# Altium schematic symbol library NXP Semiconductors Cortex-M0.SchLib: 92 symbols (part 2 of 5)
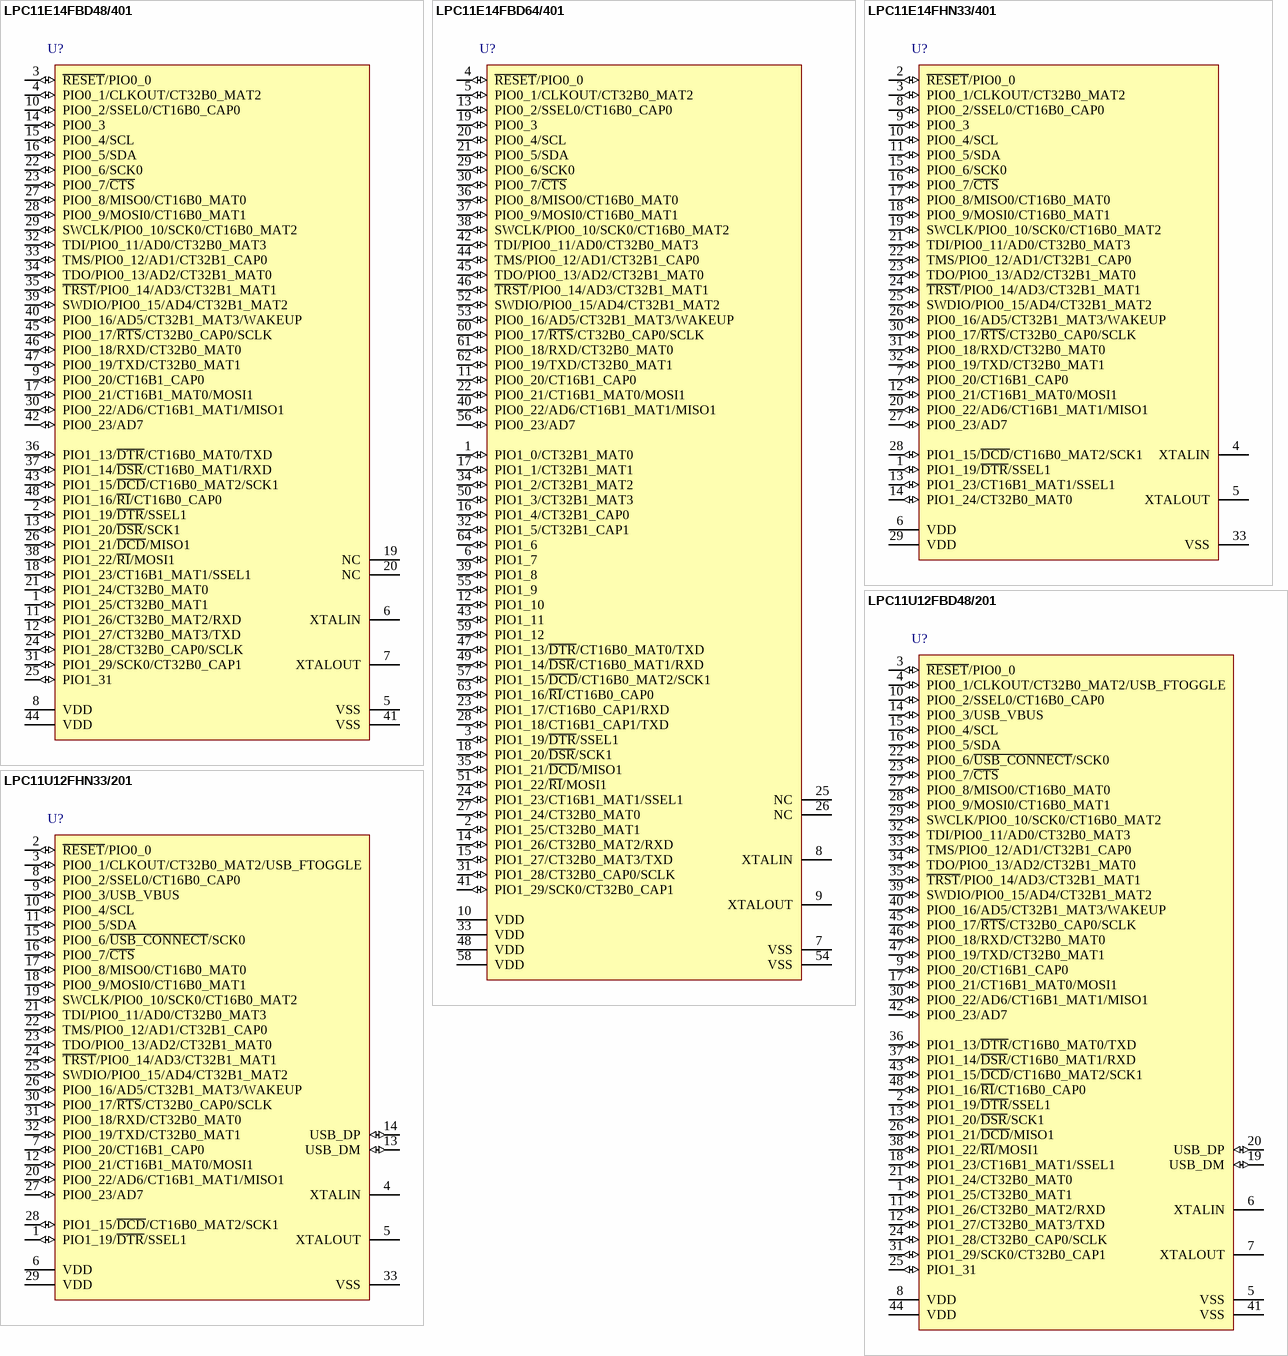
[diagram p17: symbols LPC11E14FBD48/401 to LPC11U12FHN33/201]

## LPC11U12FHN33/201
designator U?
32-bit ARM Cortex-M0 MCU, 16 kB Flash, 6 kB SRAM, USB device, USART, 2 SSPs, 32-Pin HVQFN; PartNumber: LPC11U12FHN33/201; fmax: 50 MHz; SRAM: 6 kB; Flash: 16 kB; GPIOs: 26; USB: 1; SSP: 2; PLL: Y; Timers: 4; ADC channels: 8; VDD (min): 1.8 V; VDD (typ): 3.3 V; VDD (max): 3.6 V; DatasheetVersion: Rev. 2, Jan-2012; PackageVersion: Sep-2004; PackageReference: SOT865-1; PackageDescription: 32-Pin Plastic Thermal Enhanced Very Thin Quad Flat No-Lead, 7 x 7 x 0.85 mm Body, 0.65 mm Pitch; UART: 1; I2C: 1; Code_JEDEC: MO-220; ComponentLink1Description: Manufacturer URL; ComponentLink1URL: http://www.nxp.com/; ComponentLink2Description: Datasheet; ComponentLink2URL: http://www.nxp.com/documents/data_sheet/LPC11U1X.pdf
footprint SOT865-1_N (QFN, 32-Leads, Body 7x7mm, Pitch 0.65mm, Thermal Pad 4.6x4.6mm, IPC Medium Density)
footprint SOT865-1_L (QFN, 32-Leads, Body 7x7mm, Pitch 0.65mm, Thermal Pad 4.6x4.6mm, IPC High Density)
footprint SOT865-1_M (QFN, 32-Leads, Body 7x7mm, Pitch 0.65mm, Thermal Pad 4.6x4.6mm, IPC Low Density)
pins: 1 PIO1_19/~{DTR}/SSEL1 (io), 2 ~{RESET}/PIO0_0 (io), 3 PIO0_1/CLKOUT/CT32B0_MAT2/USB_FTOGGLE (io), 4 XTALIN, 5 XTALOUT, 6 VDD (power), 7 PIO0_20/CT16B1_CAP0 (io), 8 PIO0_2/SSEL0/CT16B0_CAP0 (io), 9 PIO0_3/USB_VBUS (io), 10 PIO0_4/SCL (io), 11 PIO0_5/SDA (io), 12 PIO0_21/CT16B1_MAT0/MOSI1 (io), 13 USB_DM (io), 14 USB_DP (io), 15 PIO0_6/~{USB_CONNECT}/SCK0 (io), 16 PIO0_7/~{CTS} (io), 17 PIO0_8/MISO0/CT16B0_MAT0 (io), 18 PIO0_9/MOSI0/CT16B0_MAT1 (io), 19 SWCLK/PIO0_10/SCK0/CT16B0_MAT2 (io), 20 PIO0_22/AD6/CT16B1_MAT1/MISO1 (io), 21 TDI/PIO0_11/AD0/CT32B0_MAT3 (io), 22 TMS/PIO0_12/AD1/CT32B1_CAP0 (io), 23 TDO/PIO0_13/AD2/CT32B1_MAT0 (io), 24 ~{TRST}/PIO0_14/AD3/CT32B1_MAT1 (io), 25 SWDIO/PIO0_15/AD4/CT32B1_MAT2 (io), 26 PIO0_16/AD5/CT32B1_MAT3/WAKEUP (io), 27 PIO0_23/AD7 (io), 28 PIO1_15/~{DCD}/CT16B0_MAT2/SCK1 (io), 29 VDD (power), 30 PIO0_17/~{RTS}/CT32B0_CAP0/SCLK (io), 31 PIO0_18/RXD/CT32B0_MAT0 (io), 32 PIO0_19/TXD/CT32B0_MAT1 (io), 33 VSS (power)

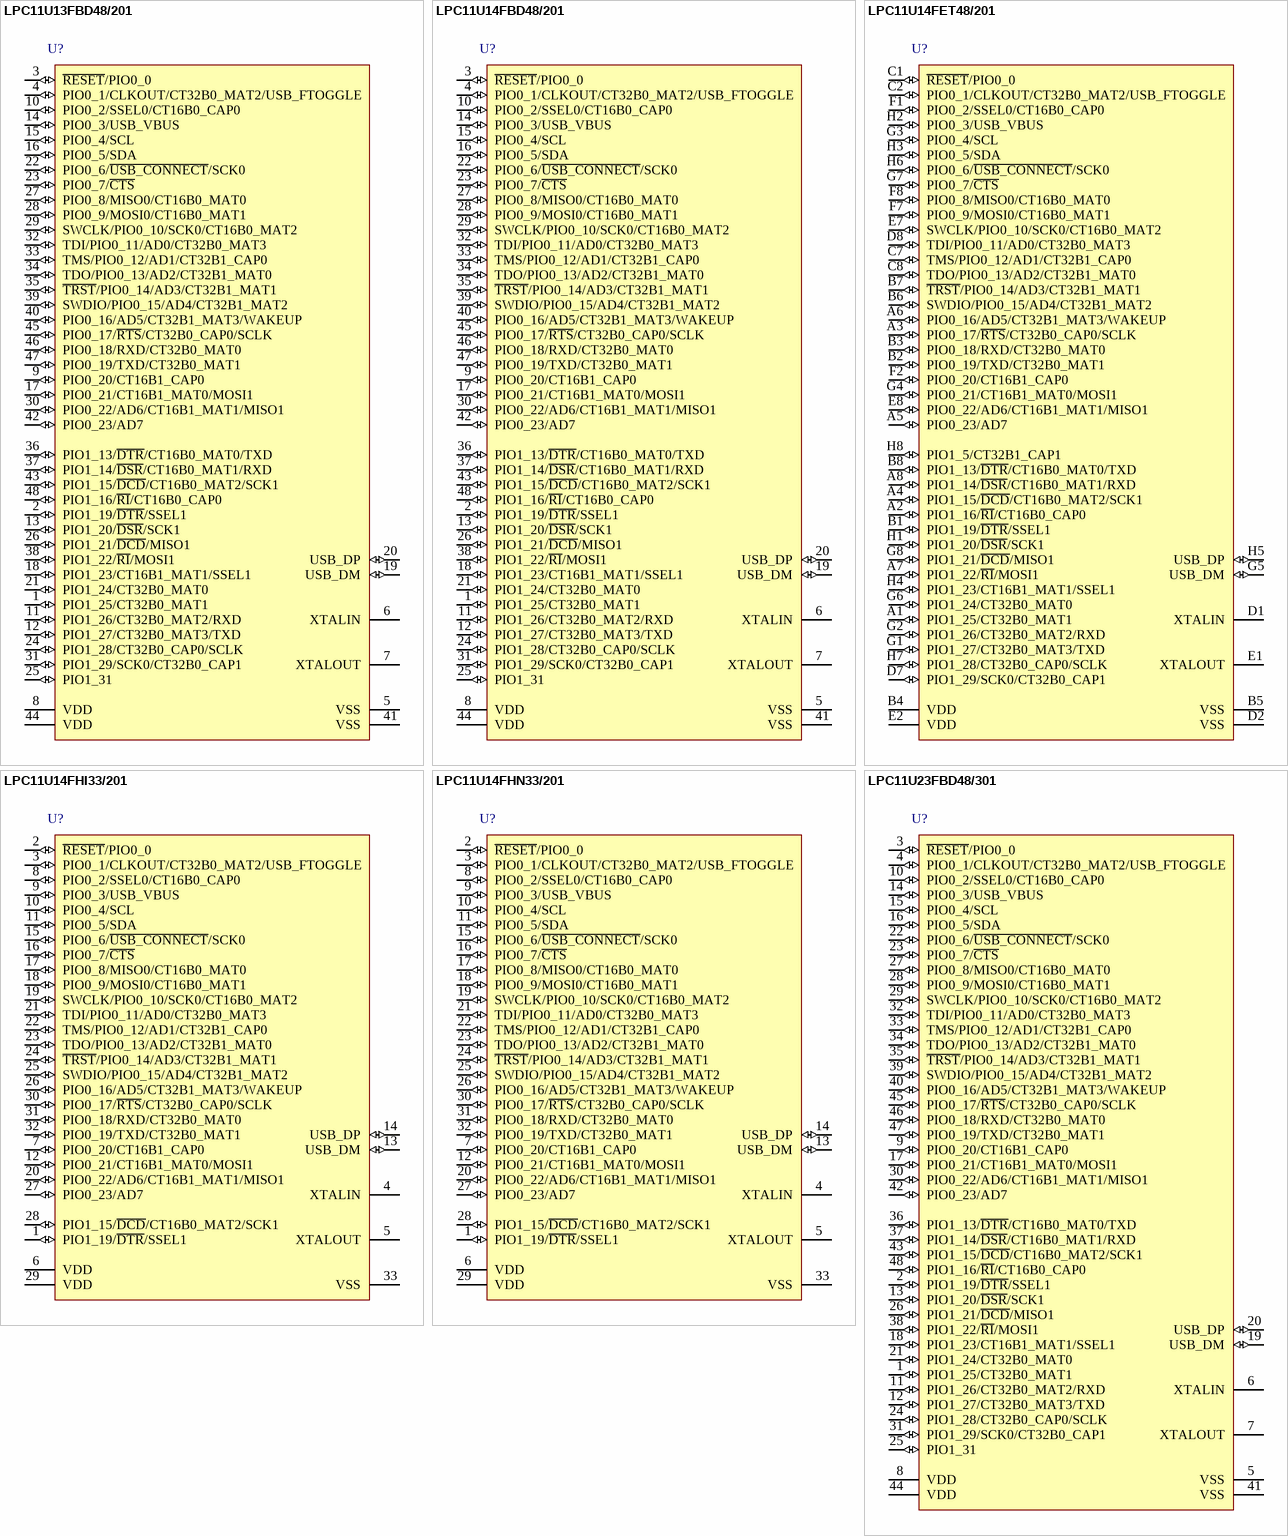
[diagram p4: symbols LPC11U13FBD48/201 to LPC11U23FBD48/301]

## LPC11U13FBD48/201
designator U?
32-bit ARM Cortex-M0 MCU, 24 kB Flash, 6 kB SRAM, USB device, USART, 2 SSPs, 48-Pin LQFP; PartNumber: LPC11U13FBD48/201; fmax: 50 MHz; SRAM: 6 kB; Flash: 24 kB; GPIOs: 40; USB: 1; SSP: 2; PLL: Y; Timers: 4; ADC channels: 8; VDD (min): 1.8 V; VDD (typ): 3.3 V; VDD (max): 3.6 V; Code_IEC: 136E05; DatasheetVersion: Rev. 2, Jan-2012; PackageVersion: Feb-2003; PackageReference: SOT313-2; PackageDescription: LQFP48: Plastic Low Profile Quad Flat Package; 48 Leads; Body 7 x 7 x 1.4 mm; UART: 1; I2C: 1; Code_JEDEC: MS-026; ComponentLink1Description: Manufacturer URL; ComponentLink1URL: http://www.nxp.com/; ComponentLink2Description: Datasheet; ComponentLink2URL: http://www.nxp.com/documents/data_sheet/LPC11U1X.pdf
footprint SOT313-2_V (Thin QFP, 48-Leads, Body 7x7mm, Pitch 0.5mm, NXP Recommended)
pins: 1 PIO1_25/CT32B0_MAT1 (io), 2 PIO1_19/~{DTR}/SSEL1 (io), 3 ~{RESET}/PIO0_0 (io), 4 PIO0_1/CLKOUT/CT32B0_MAT2/USB_FTOGGLE (io), 5 VSS (power), 6 XTALIN, 7 XTALOUT, 8 VDD (power), 9 PIO0_20/CT16B1_CAP0 (io), 10 PIO0_2/SSEL0/CT16B0_CAP0 (io), 11 PIO1_26/CT32B0_MAT2/RXD (io), 12 PIO1_27/CT32B0_MAT3/TXD (io), 13 PIO1_20/~{DSR}/SCK1 (io), 14 PIO0_3/USB_VBUS (io), 15 PIO0_4/SCL (io), 16 PIO0_5/SDA (io), 17 PIO0_21/CT16B1_MAT0/MOSI1 (io), 18 PIO1_23/CT16B1_MAT1/SSEL1 (io), 19 USB_DM (io), 20 USB_DP (io), 21 PIO1_24/CT32B0_MAT0 (io), 22 PIO0_6/~{USB_CONNECT}/SCK0 (io), 23 PIO0_7/~{CTS} (io), 24 PIO1_28/CT32B0_CAP0/SCLK (io), 25 PIO1_31 (io), 26 PIO1_21/~{DCD}/MISO1 (io), 27 PIO0_8/MISO0/CT16B0_MAT0 (io), 28 PIO0_9/MOSI0/CT16B0_MAT1 (io), 29 SWCLK/PIO0_10/SCK0/CT16B0_MAT2 (io), 30 PIO0_22/AD6/CT16B1_MAT1/MISO1 (io), 31 PIO1_29/SCK0/CT32B0_CAP1 (io), 32 TDI/PIO0_11/AD0/CT32B0_MAT3 (io), 33 TMS/PIO0_12/AD1/CT32B1_CAP0 (io), 34 TDO/PIO0_13/AD2/CT32B1_MAT0 (io), 35 ~{TRST}/PIO0_14/AD3/CT32B1_MAT1 (io), 36 PIO1_13/~{DTR}/CT16B0_MAT0/TXD (io), 37 PIO1_14/~{DSR}/CT16B0_MAT1/RXD (io), 38 PIO1_22/~{RI}/MOSI1 (io), 39 SWDIO/PIO0_15/AD4/CT32B1_MAT2 (io), 40 PIO0_16/AD5/CT32B1_MAT3/WAKEUP (io), 41 VSS (power), 42 PIO0_23/AD7 (io), 43 PIO1_15/~{DCD}/CT16B0_MAT2/SCK1 (io), 44 VDD (power), 45 PIO0_17/~{RTS}/CT32B0_CAP0/SCLK (io), 46 PIO0_18/RXD/CT32B0_MAT0 (io), 47 PIO0_19/TXD/CT32B0_MAT1 (io), 48 PIO1_16/~{RI}/CT16B0_CAP0 (io)

## LPC11U14FBD48/201
designator U?
32-bit ARM Cortex-M0 MCU, 32 kB Flash, 6 kB SRAM, USB device, USART, 2 SSPs, 48-Pin LQFP; PartNumber: LPC11U14FBD48/201; fmax: 50 MHz; SRAM: 6 kB; Flash: 32 kB; GPIOs: 40; USB: 1; SSP: 2; PLL: Y; Timers: 4; ADC channels: 8; VDD (min): 1.8 V; VDD (typ): 3.3 V; VDD (max): 3.6 V; Code_IEC: 136E05; DatasheetVersion: Rev. 2, Jan-2012; PackageVersion: Feb-2003; PackageReference: SOT313-2; PackageDescription: LQFP48: Plastic Low Profile Quad Flat Package; 48 Leads; Body 7 x 7 x 1.4 mm; UART: 1; I2C: 1; Code_JEDEC: MS-026; ComponentLink1Description: Manufacturer URL; ComponentLink1URL: http://www.nxp.com/; ComponentLink2Description: Datasheet; ComponentLink2URL: http://www.nxp.com/documents/data_sheet/LPC11U1X.pdf
footprint SOT313-2_V (Thin QFP, 48-Leads, Body 7x7mm, Pitch 0.5mm, NXP Recommended)
pins: 1 PIO1_25/CT32B0_MAT1 (io), 2 PIO1_19/~{DTR}/SSEL1 (io), 3 ~{RESET}/PIO0_0 (io), 4 PIO0_1/CLKOUT/CT32B0_MAT2/USB_FTOGGLE (io), 5 VSS (power), 6 XTALIN, 7 XTALOUT, 8 VDD (power), 9 PIO0_20/CT16B1_CAP0 (io), 10 PIO0_2/SSEL0/CT16B0_CAP0 (io), 11 PIO1_26/CT32B0_MAT2/RXD (io), 12 PIO1_27/CT32B0_MAT3/TXD (io), 13 PIO1_20/~{DSR}/SCK1 (io), 14 PIO0_3/USB_VBUS (io), 15 PIO0_4/SCL (io), 16 PIO0_5/SDA (io), 17 PIO0_21/CT16B1_MAT0/MOSI1 (io), 18 PIO1_23/CT16B1_MAT1/SSEL1 (io), 19 USB_DM (io), 20 USB_DP (io), 21 PIO1_24/CT32B0_MAT0 (io), 22 PIO0_6/~{USB_CONNECT}/SCK0 (io), 23 PIO0_7/~{CTS} (io), 24 PIO1_28/CT32B0_CAP0/SCLK (io), 25 PIO1_31 (io), 26 PIO1_21/~{DCD}/MISO1 (io), 27 PIO0_8/MISO0/CT16B0_MAT0 (io), 28 PIO0_9/MOSI0/CT16B0_MAT1 (io), 29 SWCLK/PIO0_10/SCK0/CT16B0_MAT2 (io), 30 PIO0_22/AD6/CT16B1_MAT1/MISO1 (io), 31 PIO1_29/SCK0/CT32B0_CAP1 (io), 32 TDI/PIO0_11/AD0/CT32B0_MAT3 (io), 33 TMS/PIO0_12/AD1/CT32B1_CAP0 (io), 34 TDO/PIO0_13/AD2/CT32B1_MAT0 (io), 35 ~{TRST}/PIO0_14/AD3/CT32B1_MAT1 (io), 36 PIO1_13/~{DTR}/CT16B0_MAT0/TXD (io), 37 PIO1_14/~{DSR}/CT16B0_MAT1/RXD (io), 38 PIO1_22/~{RI}/MOSI1 (io), 39 SWDIO/PIO0_15/AD4/CT32B1_MAT2 (io), 40 PIO0_16/AD5/CT32B1_MAT3/WAKEUP (io), 41 VSS (power), 42 PIO0_23/AD7 (io), 43 PIO1_15/~{DCD}/CT16B0_MAT2/SCK1 (io), 44 VDD (power), 45 PIO0_17/~{RTS}/CT32B0_CAP0/SCLK (io), 46 PIO0_18/RXD/CT32B0_MAT0 (io), 47 PIO0_19/TXD/CT32B0_MAT1 (io), 48 PIO1_16/~{RI}/CT16B0_CAP0 (io)

## LPC11U14FET48/201
designator U?
32-bit ARM Cortex-M0 MCU, 32 kB Flash, 6 kB SRAM, USB device, USART, 2 SSPs, 48-Ball TFBGA; PartNumber: LPC11U14FET48/201; fmax: 50 MHz; SRAM: 6 kB; Flash: 32 kB; GPIOs: 40; USB: 1; SSP: 2; PLL: Y; Timers: 4; ADC channels: 8; VDD (min): 1.8 V; VDD (typ): 3.3 V; VDD (max): 3.6 V; DatasheetVersion: Rev. 2, Jan-2012; PackageVersion: Nov-2009; PackageReference: SOT1155-1; PackageDescription: Plastic Thin Fine-Pitch Ball Grid Array Package, 48-Balls, 4.5 x 4.5 x 0.8 mm Body, 0.5 mm Pitch; UART: 1; I2C: 1; ComponentLink1Description: Manufacturer URL; ComponentLink1URL: http://www.nxp.com/; ComponentLink2Description: Datasheet; ComponentLink2URL: http://www.nxp.com/documents/data_sheet/LPC11U1X.pdf
footprint SOT1155-1 (BGA, 48-Leads, Body 4.5x4.5mm, Pitch 0.5mm)
pins: A1 PIO1_25/CT32B0_MAT1 (io), A2 PIO1_16/~{RI}/CT16B0_CAP0 (io), A3 PIO0_17/~{RTS}/CT32B0_CAP0/SCLK (io), A4 PIO1_15/~{DCD}/CT16B0_MAT2/SCK1 (io), A5 PIO0_23/AD7 (io), A6 PIO0_16/AD5/CT32B1_MAT3/WAKEUP (io), A7 PIO1_22/~{RI}/MOSI1 (io), A8 PIO1_14/~{DSR}/CT16B0_MAT1/RXD (io), B1 PIO1_19/~{DTR}/SSEL1 (io), B2 PIO0_19/TXD/CT32B0_MAT1 (io), B3 PIO0_18/RXD/CT32B0_MAT0 (io), B4 VDD (power), B5 VSS (power), B6 SWDIO/PIO0_15/AD4/CT32B1_MAT2 (io), B7 ~{TRST}/PIO0_14/AD3/CT32B1_MAT1 (io), B8 PIO1_13/~{DTR}/CT16B0_MAT0/TXD (io), C1 ~{RESET}/PIO0_0 (io), C2 PIO0_1/CLKOUT/CT32B0_MAT2/USB_FTOGGLE (io), C7 TMS/PIO0_12/AD1/CT32B1_CAP0 (io), C8 TDO/PIO0_13/AD2/CT32B1_MAT0 (io), D1 XTALIN, D2 VSS (power), D7 PIO1_29/SCK0/CT32B0_CAP1 (io), D8 TDI/PIO0_11/AD0/CT32B0_MAT3 (io), E1 XTALOUT, E2 VDD (power), E7 SWCLK/PIO0_10/SCK0/CT16B0_MAT2 (io), E8 PIO0_22/AD6/CT16B1_MAT1/MISO1 (io), F1 PIO0_2/SSEL0/CT16B0_CAP0 (io), F2 PIO0_20/CT16B1_CAP0 (io), F7 PIO0_9/MOSI0/CT16B0_MAT1 (io), F8 PIO0_8/MISO0/CT16B0_MAT0 (io), G1 PIO1_27/CT32B0_MAT3/TXD (io), G2 PIO1_26/CT32B0_MAT2/RXD (io), G3 PIO0_4/SCL (io), G4 PIO0_21/CT16B1_MAT0/MOSI1 (io), G5 USB_DM (io), G6 PIO1_24/CT32B0_MAT0 (io), G7 PIO0_7/~{CTS} (io), G8 PIO1_21/~{DCD}/MISO1 (io), H1 PIO1_20/~{DSR}/SCK1 (io), H2 PIO0_3/USB_VBUS (io), H3 PIO0_5/SDA (io), H4 PIO1_23/CT16B1_MAT1/SSEL1 (io), H5 USB_DP (io), H6 PIO0_6/~{USB_CONNECT}/SCK0 (io), H7 PIO1_28/CT32B0_CAP0/SCLK (io), H8 PIO1_5/CT32B1_CAP1 (io)

## LPC11U14FHI33/201
designator U?
32-bit ARM Cortex-M0 MCU, 32 kB Flash, 6 kB SRAM, USB device, USART, 2 SSPs, 32-Pin HVQFN; PartNumber: LPC11U14FHI33/201; fmax: 50 MHz; SRAM: 6 kB; Flash: 32 kB; GPIOs: 26; USB: 1; SSP: 2; PLL: Y; Timers: 4; ADC channels: 8; VDD (min): 1.8 V; VDD (typ): 3.3 V; VDD (max): 3.6 V; DatasheetVersion: Rev. 2, Jan-2012; PackageVersion: Jun-2011; PackageReference: SOT617-3; PackageDescription: HVQFN32: Plastic Thermal Enhanced Very Thin Quad Flat Package; No Leads; 32 Terminals; Body 5 x 5 x 0.85 mm; UART: 1; I2C: 1; Code_JEDEC: MO-220; ComponentLink1Description: Manufacturer URL; ComponentLink1URL: http://www.nxp.com/; ComponentLink2Description: Datasheet; ComponentLink2URL: http://www.nxp.com/documents/data_sheet/LPC11U1X.pdf
footprint SOT617-3_V (QFN, 32-Leads, Body 5x5mm, Pitch 0.5mm, Thermal Pad 3.5x3.5mm, NXP Recommended)
pins: 1 PIO1_19/~{DTR}/SSEL1 (io), 2 ~{RESET}/PIO0_0 (io), 3 PIO0_1/CLKOUT/CT32B0_MAT2/USB_FTOGGLE (io), 4 XTALIN, 5 XTALOUT, 6 VDD (power), 7 PIO0_20/CT16B1_CAP0 (io), 8 PIO0_2/SSEL0/CT16B0_CAP0 (io), 9 PIO0_3/USB_VBUS (io), 10 PIO0_4/SCL (io), 11 PIO0_5/SDA (io), 12 PIO0_21/CT16B1_MAT0/MOSI1 (io), 13 USB_DM (io), 14 USB_DP (io), 15 PIO0_6/~{USB_CONNECT}/SCK0 (io), 16 PIO0_7/~{CTS} (io), 17 PIO0_8/MISO0/CT16B0_MAT0 (io), 18 PIO0_9/MOSI0/CT16B0_MAT1 (io), 19 SWCLK/PIO0_10/SCK0/CT16B0_MAT2 (io), 20 PIO0_22/AD6/CT16B1_MAT1/MISO1 (io), 21 TDI/PIO0_11/AD0/CT32B0_MAT3 (io), 22 TMS/PIO0_12/AD1/CT32B1_CAP0 (io), 23 TDO/PIO0_13/AD2/CT32B1_MAT0 (io), 24 ~{TRST}/PIO0_14/AD3/CT32B1_MAT1 (io), 25 SWDIO/PIO0_15/AD4/CT32B1_MAT2 (io), 26 PIO0_16/AD5/CT32B1_MAT3/WAKEUP (io), 27 PIO0_23/AD7 (io), 28 PIO1_15/~{DCD}/CT16B0_MAT2/SCK1 (io), 29 VDD (power), 30 PIO0_17/~{RTS}/CT32B0_CAP0/SCLK (io), 31 PIO0_18/RXD/CT32B0_MAT0 (io), 32 PIO0_19/TXD/CT32B0_MAT1 (io), 33 VSS (power)

## LPC11U14FHN33/201
designator U?
32-bit ARM Cortex-M0 MCU, 32 kB Flash, 6 kB SRAM, USB device, USART, 2 SSPs, 32-Pin HVQFN; PartNumber: LPC11U14FHN33/201; fmax: 50 MHz; SRAM: 6 kB; Flash: 32 kB; GPIOs: 26; USB: 1; SSP: 2; PLL: Y; Timers: 4; ADC channels: 8; VDD (min): 1.8 V; VDD (typ): 3.3 V; VDD (max): 3.6 V; DatasheetVersion: Rev. 2, Jan-2012; PackageVersion: Sep-2004; PackageReference: SOT865-1; PackageDescription: 32-Pin Plastic Thermal Enhanced Very Thin Quad Flat No-Lead, 7 x 7 x 0.85 mm Body, 0.65 mm Pitch; UART: 1; I2C: 1; Code_JEDEC: MO-220; ComponentLink1Description: Manufacturer URL; ComponentLink1URL: http://www.nxp.com/; ComponentLink2Description: Datasheet; ComponentLink2URL: http://www.nxp.com/documents/data_sheet/LPC11U1X.pdf
footprint SOT865-1_N (QFN, 32-Leads, Body 7x7mm, Pitch 0.65mm, Thermal Pad 4.6x4.6mm, IPC Medium Density)
footprint SOT865-1_L (QFN, 32-Leads, Body 7x7mm, Pitch 0.65mm, Thermal Pad 4.6x4.6mm, IPC High Density)
footprint SOT865-1_M (QFN, 32-Leads, Body 7x7mm, Pitch 0.65mm, Thermal Pad 4.6x4.6mm, IPC Low Density)
pins: 1 PIO1_19/~{DTR}/SSEL1 (io), 2 ~{RESET}/PIO0_0 (io), 3 PIO0_1/CLKOUT/CT32B0_MAT2/USB_FTOGGLE (io), 4 XTALIN, 5 XTALOUT, 6 VDD (power), 7 PIO0_20/CT16B1_CAP0 (io), 8 PIO0_2/SSEL0/CT16B0_CAP0 (io), 9 PIO0_3/USB_VBUS (io), 10 PIO0_4/SCL (io), 11 PIO0_5/SDA (io), 12 PIO0_21/CT16B1_MAT0/MOSI1 (io), 13 USB_DM (io), 14 USB_DP (io), 15 PIO0_6/~{USB_CONNECT}/SCK0 (io), 16 PIO0_7/~{CTS} (io), 17 PIO0_8/MISO0/CT16B0_MAT0 (io), 18 PIO0_9/MOSI0/CT16B0_MAT1 (io), 19 SWCLK/PIO0_10/SCK0/CT16B0_MAT2 (io), 20 PIO0_22/AD6/CT16B1_MAT1/MISO1 (io), 21 TDI/PIO0_11/AD0/CT32B0_MAT3 (io), 22 TMS/PIO0_12/AD1/CT32B1_CAP0 (io), 23 TDO/PIO0_13/AD2/CT32B1_MAT0 (io), 24 ~{TRST}/PIO0_14/AD3/CT32B1_MAT1 (io), 25 SWDIO/PIO0_15/AD4/CT32B1_MAT2 (io), 26 PIO0_16/AD5/CT32B1_MAT3/WAKEUP (io), 27 PIO0_23/AD7 (io), 28 PIO1_15/~{DCD}/CT16B0_MAT2/SCK1 (io), 29 VDD (power), 30 PIO0_17/~{RTS}/CT32B0_CAP0/SCLK (io), 31 PIO0_18/RXD/CT32B0_MAT0 (io), 32 PIO0_19/TXD/CT32B0_MAT1 (io), 33 VSS (power)

## LPC11U23FBD48/301
designator U?
32-bit ARM Cortex-M0 MCU, 24 kB Flash, 1 kB EEPROM, 6 kB Main SRAM, 2 kB USB SRAM, 48-Pin LQFP; PartNumber: LPC11U23FBD48/301; fmax: 50 MHz; SRAM: 6 kB; Flash: 24 kB; EEPROM: 1 kB; GPIOs: 40; USB: 1; SSP: 2; PLL: Y; Timers: 4; ADC channels: 8; VDD (min): 1.8 V; VDD (typ): 3.3 V; VDD (max): 3.6 V; Code_IEC: 136E05; DatasheetVersion: Rev.2, Jan-2012; PackageVersion: Feb-2003; PackageReference: SOT313-2; PackageDescription: LQFP48: Plastic Low Profile Quad Flat Package; 48 Leads; Body 7 x 7 x 1.4 mm; I2C: 1; Code_JEDEC: MS-026; ComponentLink1Description: Manufacturer URL; ComponentLink1URL: http://www.nxp.com/; ComponentLink2Description: Datasheet; ComponentLink2URL: http://www.nxp.com/documents/data_sheet/LPC11U2X.pdf
footprint SOT313-2_V (Thin QFP, 48-Leads, Body 7x7mm, Pitch 0.5mm, NXP Recommended)
pins: 1 PIO1_25/CT32B0_MAT1 (io), 2 PIO1_19/~{DTR}/SSEL1 (io), 3 ~{RESET}/PIO0_0 (io), 4 PIO0_1/CLKOUT/CT32B0_MAT2/USB_FTOGGLE (io), 5 VSS (power), 6 XTALIN, 7 XTALOUT, 8 VDD (power), 9 PIO0_20/CT16B1_CAP0 (io), 10 PIO0_2/SSEL0/CT16B0_CAP0 (io), 11 PIO1_26/CT32B0_MAT2/RXD (io), 12 PIO1_27/CT32B0_MAT3/TXD (io), 13 PIO1_20/~{DSR}/SCK1 (io), 14 PIO0_3/USB_VBUS (io), 15 PIO0_4/SCL (io), 16 PIO0_5/SDA (io), 17 PIO0_21/CT16B1_MAT0/MOSI1 (io), 18 PIO1_23/CT16B1_MAT1/SSEL1 (io), 19 USB_DM (io), 20 USB_DP (io), 21 PIO1_24/CT32B0_MAT0 (io), 22 PIO0_6/~{USB_CONNECT}/SCK0 (io), 23 PIO0_7/~{CTS} (io), 24 PIO1_28/CT32B0_CAP0/SCLK (io), 25 PIO1_31 (io), 26 PIO1_21/~{DCD}/MISO1 (io), 27 PIO0_8/MISO0/CT16B0_MAT0 (io), 28 PIO0_9/MOSI0/CT16B0_MAT1 (io), 29 SWCLK/PIO0_10/SCK0/CT16B0_MAT2 (io), 30 PIO0_22/AD6/CT16B1_MAT1/MISO1 (io), 31 PIO1_29/SCK0/CT32B0_CAP1 (io), 32 TDI/PIO0_11/AD0/CT32B0_MAT3 (io), 33 TMS/PIO0_12/AD1/CT32B1_CAP0 (io), 34 TDO/PIO0_13/AD2/CT32B1_MAT0 (io), 35 ~{TRST}/PIO0_14/AD3/CT32B1_MAT1 (io), 36 PIO1_13/~{DTR}/CT16B0_MAT0/TXD (io), 37 PIO1_14/~{DSR}/CT16B0_MAT1/RXD (io), 38 PIO1_22/~{RI}/MOSI1 (io), 39 SWDIO/PIO0_15/AD4/CT32B1_MAT2 (io), 40 PIO0_16/AD5/CT32B1_MAT3/WAKEUP (io), 41 VSS (power), 42 PIO0_23/AD7 (io), 43 PIO1_15/~{DCD}/CT16B0_MAT2/SCK1 (io), 44 VDD (power), 45 PIO0_17/~{RTS}/CT32B0_CAP0/SCLK (io), 46 PIO0_18/RXD/CT32B0_MAT0 (io), 47 PIO0_19/TXD/CT32B0_MAT1 (io), 48 PIO1_16/~{RI}/CT16B0_CAP0 (io)

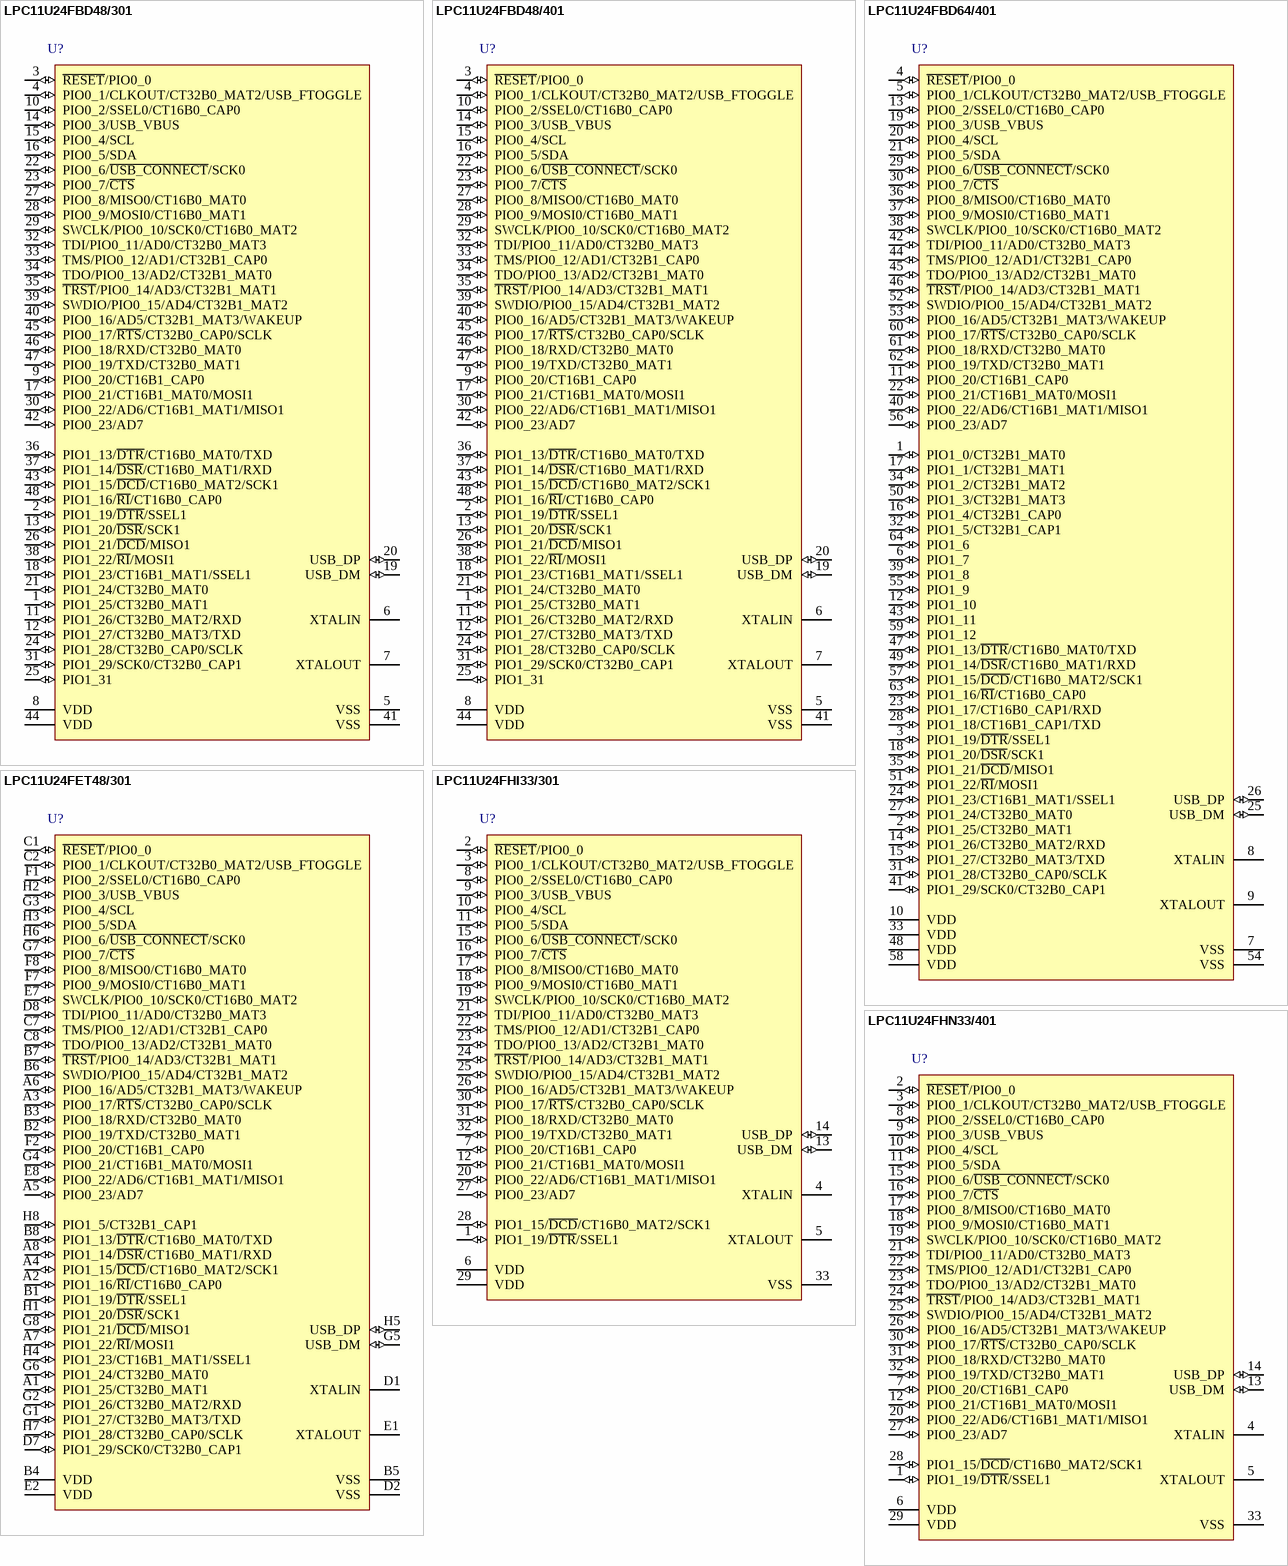
[diagram p5: symbols LPC11U24FBD48/301 to LPC11U24FHN33/401]

## LPC11U24FBD48/301
designator U?
32-bit ARM Cortex-M0 MCU, 32 kB Flash, 2 kB EEPROM, 6 kB Main SRAM, 2 kB USB SRAM, 48-Pin LQFP; PartNumber: LPC11U24FBD48/301; fmax: 50 MHz; SRAM: 6 kB; Flash: 32 kB; EEPROM: 2 kB; GPIOs: 40; USB: 1; SSP: 2; PLL: Y; Timers: 4; ADC channels: 8; VDD (min): 1.8 V; VDD (typ): 3.3 V; VDD (max): 3.6 V; Code_IEC: 136E05; DatasheetVersion: Rev.2, Jan-2012; PackageVersion: Feb-2003; PackageReference: SOT313-2; PackageDescription: LQFP48: Plastic Low Profile Quad Flat Package; 48 Leads; Body 7 x 7 x 1.4 mm; I2C: 1; Code_JEDEC: MS-026; ComponentLink1Description: Manufacturer URL; ComponentLink1URL: http://www.nxp.com/; ComponentLink2Description: Datasheet; ComponentLink2URL: http://www.nxp.com/documents/data_sheet/LPC11U2X.pdf
footprint SOT313-2_V (Thin QFP, 48-Leads, Body 7x7mm, Pitch 0.5mm, NXP Recommended)
pins: 1 PIO1_25/CT32B0_MAT1 (io), 2 PIO1_19/~{DTR}/SSEL1 (io), 3 ~{RESET}/PIO0_0 (io), 4 PIO0_1/CLKOUT/CT32B0_MAT2/USB_FTOGGLE (io), 5 VSS (power), 6 XTALIN, 7 XTALOUT, 8 VDD (power), 9 PIO0_20/CT16B1_CAP0 (io), 10 PIO0_2/SSEL0/CT16B0_CAP0 (io), 11 PIO1_26/CT32B0_MAT2/RXD (io), 12 PIO1_27/CT32B0_MAT3/TXD (io), 13 PIO1_20/~{DSR}/SCK1 (io), 14 PIO0_3/USB_VBUS (io), 15 PIO0_4/SCL (io), 16 PIO0_5/SDA (io), 17 PIO0_21/CT16B1_MAT0/MOSI1 (io), 18 PIO1_23/CT16B1_MAT1/SSEL1 (io), 19 USB_DM (io), 20 USB_DP (io), 21 PIO1_24/CT32B0_MAT0 (io), 22 PIO0_6/~{USB_CONNECT}/SCK0 (io), 23 PIO0_7/~{CTS} (io), 24 PIO1_28/CT32B0_CAP0/SCLK (io), 25 PIO1_31 (io), 26 PIO1_21/~{DCD}/MISO1 (io), 27 PIO0_8/MISO0/CT16B0_MAT0 (io), 28 PIO0_9/MOSI0/CT16B0_MAT1 (io), 29 SWCLK/PIO0_10/SCK0/CT16B0_MAT2 (io), 30 PIO0_22/AD6/CT16B1_MAT1/MISO1 (io), 31 PIO1_29/SCK0/CT32B0_CAP1 (io), 32 TDI/PIO0_11/AD0/CT32B0_MAT3 (io), 33 TMS/PIO0_12/AD1/CT32B1_CAP0 (io), 34 TDO/PIO0_13/AD2/CT32B1_MAT0 (io), 35 ~{TRST}/PIO0_14/AD3/CT32B1_MAT1 (io), 36 PIO1_13/~{DTR}/CT16B0_MAT0/TXD (io), 37 PIO1_14/~{DSR}/CT16B0_MAT1/RXD (io), 38 PIO1_22/~{RI}/MOSI1 (io), 39 SWDIO/PIO0_15/AD4/CT32B1_MAT2 (io), 40 PIO0_16/AD5/CT32B1_MAT3/WAKEUP (io), 41 VSS (power), 42 PIO0_23/AD7 (io), 43 PIO1_15/~{DCD}/CT16B0_MAT2/SCK1 (io), 44 VDD (power), 45 PIO0_17/~{RTS}/CT32B0_CAP0/SCLK (io), 46 PIO0_18/RXD/CT32B0_MAT0 (io), 47 PIO0_19/TXD/CT32B0_MAT1 (io), 48 PIO1_16/~{RI}/CT16B0_CAP0 (io)

## LPC11U24FBD48/401
designator U?
32-bit ARM Cortex-M0 MCU, 32 kB Flash, 3 kB EEPROM, 8 kB Main SRAM, 2 kB USB SRAM, 48-Pin LQFP; PartNumber: LPC11U24FBD48/401; fmax: 50 MHz; SRAM: 8 kB; Flash: 32 kB; EEPROM: 3 kB; GPIOs: 40; USB: 1; SSP: 2; PLL: Y; Timers: 4; ADC channels: 8; VDD (min): 1.8 V; VDD (typ): 3.3 V; VDD (max): 3.6 V; Code_IEC: 136E05; DatasheetVersion: Rev.2, Jan-2012; PackageVersion: Feb-2003; PackageReference: SOT313-2; PackageDescription: LQFP48: Plastic Low Profile Quad Flat Package; 48 Leads; Body 7 x 7 x 1.4 mm; I2C: 1; Code_JEDEC: MS-026; ComponentLink1Description: Manufacturer URL; ComponentLink1URL: http://www.nxp.com/; ComponentLink2Description: Datasheet; ComponentLink2URL: http://www.nxp.com/documents/data_sheet/LPC11U2X.pdf
footprint SOT313-2_V (Thin QFP, 48-Leads, Body 7x7mm, Pitch 0.5mm, NXP Recommended)
pins: 1 PIO1_25/CT32B0_MAT1 (io), 2 PIO1_19/~{DTR}/SSEL1 (io), 3 ~{RESET}/PIO0_0 (io), 4 PIO0_1/CLKOUT/CT32B0_MAT2/USB_FTOGGLE (io), 5 VSS (power), 6 XTALIN, 7 XTALOUT, 8 VDD (power), 9 PIO0_20/CT16B1_CAP0 (io), 10 PIO0_2/SSEL0/CT16B0_CAP0 (io), 11 PIO1_26/CT32B0_MAT2/RXD (io), 12 PIO1_27/CT32B0_MAT3/TXD (io), 13 PIO1_20/~{DSR}/SCK1 (io), 14 PIO0_3/USB_VBUS (io), 15 PIO0_4/SCL (io), 16 PIO0_5/SDA (io), 17 PIO0_21/CT16B1_MAT0/MOSI1 (io), 18 PIO1_23/CT16B1_MAT1/SSEL1 (io), 19 USB_DM (io), 20 USB_DP (io), 21 PIO1_24/CT32B0_MAT0 (io), 22 PIO0_6/~{USB_CONNECT}/SCK0 (io), 23 PIO0_7/~{CTS} (io), 24 PIO1_28/CT32B0_CAP0/SCLK (io), 25 PIO1_31 (io), 26 PIO1_21/~{DCD}/MISO1 (io), 27 PIO0_8/MISO0/CT16B0_MAT0 (io), 28 PIO0_9/MOSI0/CT16B0_MAT1 (io), 29 SWCLK/PIO0_10/SCK0/CT16B0_MAT2 (io), 30 PIO0_22/AD6/CT16B1_MAT1/MISO1 (io), 31 PIO1_29/SCK0/CT32B0_CAP1 (io), 32 TDI/PIO0_11/AD0/CT32B0_MAT3 (io), 33 TMS/PIO0_12/AD1/CT32B1_CAP0 (io), 34 TDO/PIO0_13/AD2/CT32B1_MAT0 (io), 35 ~{TRST}/PIO0_14/AD3/CT32B1_MAT1 (io), 36 PIO1_13/~{DTR}/CT16B0_MAT0/TXD (io), 37 PIO1_14/~{DSR}/CT16B0_MAT1/RXD (io), 38 PIO1_22/~{RI}/MOSI1 (io), 39 SWDIO/PIO0_15/AD4/CT32B1_MAT2 (io), 40 PIO0_16/AD5/CT32B1_MAT3/WAKEUP (io), 41 VSS (power), 42 PIO0_23/AD7 (io), 43 PIO1_15/~{DCD}/CT16B0_MAT2/SCK1 (io), 44 VDD (power), 45 PIO0_17/~{RTS}/CT32B0_CAP0/SCLK (io), 46 PIO0_18/RXD/CT32B0_MAT0 (io), 47 PIO0_19/TXD/CT32B0_MAT1 (io), 48 PIO1_16/~{RI}/CT16B0_CAP0 (io)

## LPC11U24FBD64/401
designator U?
32-bit ARM Cortex-M0 MCU, 32 kB Flash, 3 kB EEPROM, 8 kB Main SRAM, 2 kB USB SRAM, 64-Pin LQFP; PartNumber: LPC11U24FBD64/401; fmax: 50 MHz; SRAM: 8 kB; Flash: 32 kB; EEPROM: 3 kB; GPIOs: 54; USB: 1; SSP: 2; PLL: Y; Timers: 4; ADC channels: 8; VDD (min): 1.8 V; VDD (typ): 3.3 V; VDD (max): 3.6 V; Code_IEC: 136E10; DatasheetVersion: Rev.2, Jan-2012; PackageVersion: Feb-2003; PackageReference: SOT314-2; PackageDescription: LQFP64: Plastic Low Profile Quad Flat Package; 64 Leads; Body 10 x 10 x 1.4 mm; I2C: 1; Code_JEDEC: MS-026; ComponentLink1Description: Manufacturer URL; ComponentLink1URL: http://www.nxp.com/; ComponentLink2Description: Datasheet; ComponentLink2URL: http://www.nxp.com/documents/data_sheet/LPC11U2X.pdf
footprint SOT314-2_V (Thin QFP, 64-Leads, Body 10x10mm, Pitch 0.5mm, NXP Recommended)
pins: 1 PIO1_0/CT32B1_MAT0 (io), 2 PIO1_25/CT32B0_MAT1 (io), 3 PIO1_19/~{DTR}/SSEL1 (io), 4 ~{RESET}/PIO0_0 (io), 5 PIO0_1/CLKOUT/CT32B0_MAT2/USB_FTOGGLE (io), 6 PIO1_7 (io), 7 VSS (power), 8 XTALIN, 9 XTALOUT, 10 VDD (power), 11 PIO0_20/CT16B1_CAP0 (io), 12 PIO1_10 (io), 13 PIO0_2/SSEL0/CT16B0_CAP0 (io), 14 PIO1_26/CT32B0_MAT2/RXD (io), 15 PIO1_27/CT32B0_MAT3/TXD (io), 16 PIO1_4/CT32B1_CAP0 (io), 17 PIO1_1/CT32B1_MAT1 (io), 18 PIO1_20/~{DSR}/SCK1 (io), 19 PIO0_3/USB_VBUS (io), 20 PIO0_4/SCL (io), 21 PIO0_5/SDA (io), 22 PIO0_21/CT16B1_MAT0/MOSI1 (io), 23 PIO1_17/CT16B0_CAP1/RXD (io), 24 PIO1_23/CT16B1_MAT1/SSEL1 (io), 25 USB_DM (io), 26 USB_DP (io), 27 PIO1_24/CT32B0_MAT0 (io), 28 PIO1_18/CT16B1_CAP1/TXD (io), 29 PIO0_6/~{USB_CONNECT}/SCK0 (io), 30 PIO0_7/~{CTS} (io), 31 PIO1_28/CT32B0_CAP0/SCLK (io), 32 PIO1_5/CT32B1_CAP1 (io), 33 VDD (power), 34 PIO1_2/CT32B1_MAT2 (io), 35 PIO1_21/~{DCD}/MISO1 (io), 36 PIO0_8/MISO0/CT16B0_MAT0 (io), 37 PIO0_9/MOSI0/CT16B0_MAT1 (io), 38 SWCLK/PIO0_10/SCK0/CT16B0_MAT2 (io), 39 PIO1_8 (io), 40 PIO0_22/AD6/CT16B1_MAT1/MISO1 (io), 41 PIO1_29/SCK0/CT32B0_CAP1 (io), 42 TDI/PIO0_11/AD0/CT32B0_MAT3 (io), 43 PIO1_11 (io), 44 TMS/PIO0_12/AD1/CT32B1_CAP0 (io), 45 TDO/PIO0_13/AD2/CT32B1_MAT0 (io), 46 ~{TRST}/PIO0_14/AD3/CT32B1_MAT1 (io), 47 PIO1_13/~{DTR}/CT16B0_MAT0/TXD (io), 48 VDD (power), 49 PIO1_14/~{DSR}/CT16B0_MAT1/RXD (io), 50 PIO1_3/CT32B1_MAT3 (io), 51 PIO1_22/~{RI}/MOSI1 (io), 52 SWDIO/PIO0_15/AD4/CT32B1_MAT2 (io), 53 PIO0_16/AD5/CT32B1_MAT3/WAKEUP (io), 54 VSS (power), 55 PIO1_9 (io), 56 PIO0_23/AD7 (io), 57 PIO1_15/~{DCD}/CT16B0_MAT2/SCK1 (io), 58 VDD (power), 59 PIO1_12 (io), 60 PIO0_17/~{RTS}/CT32B0_CAP0/SCLK (io), 61 PIO0_18/RXD/CT32B0_MAT0 (io), 62 PIO0_19/TXD/CT32B0_MAT1 (io), 63 PIO1_16/~{RI}/CT16B0_CAP0 (io), 64 PIO1_6 (io)

## LPC11U24FET48/301
designator U?
32-bit ARM Cortex-M0 MCU, 32 kB Flash, 2 kB EEPROM, 6 kB Main SRAM, 2 kB USB SRAM, 48-Ball TFBGA; PartNumber: LPC11U24FET48/301; fmax: 50 MHz; SRAM: 6 kB; Flash: 32 kB; EEPROM: 2 kB; GPIOs: 40; USB: 1; SSP: 2; PLL: Y; Timers: 4; ADC channels: 8; VDD (min): 1.8 V; VDD (typ): 3.3 V; VDD (max): 3.6 V; DatasheetVersion: Rev.2, Jan-2012; PackageVersion: Mar-2011; PackageReference: SOT1155-2; PackageDescription: TFBGA48: Plastic Thin Fine-Pitch Ball Grid Array Package; 48 Balls; Body 4.5 x 4.5 x 0.7 mm; I2C: 1; ComponentLink1Description: Manufacturer URL; ComponentLink1URL: http://www.nxp.com/; ComponentLink2Description: Datasheet; ComponentLink2URL: http://www.nxp.com/documents/data_sheet/LPC11U2X.pdf
footprint SOT1155-2 (BGA, 64-Leads, Body 4.5x4.5mm, Pitch 0.5mm, NXP Recommended Pads)
pins: A1 PIO1_25/CT32B0_MAT1 (io), A2 PIO1_16/~{RI}/CT16B0_CAP0 (io), A3 PIO0_17/~{RTS}/CT32B0_CAP0/SCLK (io), A4 PIO1_15/~{DCD}/CT16B0_MAT2/SCK1 (io), A5 PIO0_23/AD7 (io), A6 PIO0_16/AD5/CT32B1_MAT3/WAKEUP (io), A7 PIO1_22/~{RI}/MOSI1 (io), A8 PIO1_14/~{DSR}/CT16B0_MAT1/RXD (io), B1 PIO1_19/~{DTR}/SSEL1 (io), B2 PIO0_19/TXD/CT32B0_MAT1 (io), B3 PIO0_18/RXD/CT32B0_MAT0 (io), B4 VDD (power), B5 VSS (power), B6 SWDIO/PIO0_15/AD4/CT32B1_MAT2 (io), B7 ~{TRST}/PIO0_14/AD3/CT32B1_MAT1 (io), B8 PIO1_13/~{DTR}/CT16B0_MAT0/TXD (io), C1 ~{RESET}/PIO0_0 (io), C2 PIO0_1/CLKOUT/CT32B0_MAT2/USB_FTOGGLE (io), C7 TMS/PIO0_12/AD1/CT32B1_CAP0 (io), C8 TDO/PIO0_13/AD2/CT32B1_MAT0 (io), D1 XTALIN, D2 VSS (power), D7 PIO1_29/SCK0/CT32B0_CAP1 (io), D8 TDI/PIO0_11/AD0/CT32B0_MAT3 (io), E1 XTALOUT, E2 VDD (power), E7 SWCLK/PIO0_10/SCK0/CT16B0_MAT2 (io), E8 PIO0_22/AD6/CT16B1_MAT1/MISO1 (io), F1 PIO0_2/SSEL0/CT16B0_CAP0 (io), F2 PIO0_20/CT16B1_CAP0 (io), F7 PIO0_9/MOSI0/CT16B0_MAT1 (io), F8 PIO0_8/MISO0/CT16B0_MAT0 (io), G1 PIO1_27/CT32B0_MAT3/TXD (io), G2 PIO1_26/CT32B0_MAT2/RXD (io), G3 PIO0_4/SCL (io), G4 PIO0_21/CT16B1_MAT0/MOSI1 (io), G5 USB_DM (io), G6 PIO1_24/CT32B0_MAT0 (io), G7 PIO0_7/~{CTS} (io), G8 PIO1_21/~{DCD}/MISO1 (io), H1 PIO1_20/~{DSR}/SCK1 (io), H2 PIO0_3/USB_VBUS (io), H3 PIO0_5/SDA (io), H4 PIO1_23/CT16B1_MAT1/SSEL1 (io), H5 USB_DP (io), H6 PIO0_6/~{USB_CONNECT}/SCK0 (io), H7 PIO1_28/CT32B0_CAP0/SCLK (io), H8 PIO1_5/CT32B1_CAP1 (io)

## LPC11U24FHI33/301
designator U?
32-bit ARM Cortex-M0 MCU, 32 kB Flash, 2 kB EEPROM, 6 kB Main SRAM, 2 kB USB SRAM, 32-Pin HVQFN; PartNumber: LPC11U24FHI33/301; fmax: 50 MHz; SRAM: 6 kB; Flash: 32 kB; EEPROM: 2 kB; GPIOs: 26; USB: 1; SSP: 2; PLL: Y; Timers: 4; ADC channels: 8; VDD (min): 1.8 V; VDD (typ): 3.3 V; VDD (max): 3.6 V; DatasheetVersion: Rev.2, Jan-2012; PackageVersion: Jun-2011; PackageReference: SOT617-3; PackageDescription: HVQFN32: Plastic Thermal Enhanced Very Thin Quad Flat Package; No Leads; 32 Terminals; Body 5 x 5 x 0.85 mm; I2C: 1; Code_JEDEC: MO-220; ComponentLink1Description: Manufacturer URL; ComponentLink1URL: http://www.nxp.com/; ComponentLink2Description: Datasheet; ComponentLink2URL: http://www.nxp.com/documents/data_sheet/LPC11U2X.pdf
footprint SOT617-3_V (QFN, 32-Leads, Body 5x5mm, Pitch 0.5mm, Thermal Pad 3.5x3.5mm, NXP Recommended)
pins: 1 PIO1_19/~{DTR}/SSEL1 (io), 2 ~{RESET}/PIO0_0 (io), 3 PIO0_1/CLKOUT/CT32B0_MAT2/USB_FTOGGLE (io), 4 XTALIN, 5 XTALOUT, 6 VDD (power), 7 PIO0_20/CT16B1_CAP0 (io), 8 PIO0_2/SSEL0/CT16B0_CAP0 (io), 9 PIO0_3/USB_VBUS (io), 10 PIO0_4/SCL (io), 11 PIO0_5/SDA (io), 12 PIO0_21/CT16B1_MAT0/MOSI1 (io), 13 USB_DM (io), 14 USB_DP (io), 15 PIO0_6/~{USB_CONNECT}/SCK0 (io), 16 PIO0_7/~{CTS} (io), 17 PIO0_8/MISO0/CT16B0_MAT0 (io), 18 PIO0_9/MOSI0/CT16B0_MAT1 (io), 19 SWCLK/PIO0_10/SCK0/CT16B0_MAT2 (io), 20 PIO0_22/AD6/CT16B1_MAT1/MISO1 (io), 21 TDI/PIO0_11/AD0/CT32B0_MAT3 (io), 22 TMS/PIO0_12/AD1/CT32B1_CAP0 (io), 23 TDO/PIO0_13/AD2/CT32B1_MAT0 (io), 24 ~{TRST}/PIO0_14/AD3/CT32B1_MAT1 (io), 25 SWDIO/PIO0_15/AD4/CT32B1_MAT2 (io), 26 PIO0_16/AD5/CT32B1_MAT3/WAKEUP (io), 27 PIO0_23/AD7 (io), 28 PIO1_15/~{DCD}/CT16B0_MAT2/SCK1 (io), 29 VDD (power), 30 PIO0_17/~{RTS}/CT32B0_CAP0/SCLK (io), 31 PIO0_18/RXD/CT32B0_MAT0 (io), 32 PIO0_19/TXD/CT32B0_MAT1 (io), 33 VSS (power)

## LPC11U24FHN33/401
designator U?
32-bit ARM Cortex-M0 MCU, 32 kB Flash, 3 kB EEPROM, 8 kB Main SRAM, 2 kB USB SRAM, 32-Pin HVQFN; PartNumber: LPC11U24FHN33/401; fmax: 50 MHz; SRAM: 8 kB; Flash: 32 kB; EEPROM: 3 kB; GPIOs: 26; USB: 1; SSP: 2; PLL: Y; Timers: 4; ADC channels: 8; VDD (min): 1.8 V; VDD (typ): 3.3 V; VDD (max): 3.6 V; DatasheetVersion: Rev.2, Jan-2012; PackageVersion: Jun-2009; PackageReference: SOT865-3; PackageDescription: HVQFN32: Plastic Thermal Enhanced Very Thin Quad Flat Package; No Leads; 32 Terminals; Body 7 x 7 x 0.85 mm; I2C: 1; Code_JEDEC: MO-220; ComponentLink1Description: Manufacturer URL; ComponentLink1URL: http://www.nxp.com/; ComponentLink2Description: Datasheet; ComponentLink2URL: http://www.nxp.com/documents/data_sheet/LPC11U2X.pdf
footprint SOT865-3_V (QFN, 32-Leads, Body 7x7mm, Pitch 0.65mm, Thermal Pad 4.7x4.7mm, NXP Recommended)
footprint SOT865-3_N (QFN, 32-Leads, Body 7x7mm, Pitch 0.65mm, Thermal Pad 4.9x4.9mm, IPC Medium Density)
footprint SOT865-3_L (QFN, 32-Leads, Body 7x7mm, Pitch 0.65mm, Thermal Pad 4.9x4.9mm, IPC High Density)
footprint SOT865-3_M (QFN, 32-Leads, Body 7x7mm, Pitch 0.65mm, Thermal Pad 4.9x4.9mm, IPC Low Density)
pins: 1 PIO1_19/~{DTR}/SSEL1 (io), 2 ~{RESET}/PIO0_0 (io), 3 PIO0_1/CLKOUT/CT32B0_MAT2/USB_FTOGGLE (io), 4 XTALIN, 5 XTALOUT, 6 VDD (power), 7 PIO0_20/CT16B1_CAP0 (io), 8 PIO0_2/SSEL0/CT16B0_CAP0 (io), 9 PIO0_3/USB_VBUS (io), 10 PIO0_4/SCL (io), 11 PIO0_5/SDA (io), 12 PIO0_21/CT16B1_MAT0/MOSI1 (io), 13 USB_DM (io), 14 USB_DP (io), 15 PIO0_6/~{USB_CONNECT}/SCK0 (io), 16 PIO0_7/~{CTS} (io), 17 PIO0_8/MISO0/CT16B0_MAT0 (io), 18 PIO0_9/MOSI0/CT16B0_MAT1 (io), 19 SWCLK/PIO0_10/SCK0/CT16B0_MAT2 (io), 20 PIO0_22/AD6/CT16B1_MAT1/MISO1 (io), 21 TDI/PIO0_11/AD0/CT32B0_MAT3 (io), 22 TMS/PIO0_12/AD1/CT32B1_CAP0 (io), 23 TDO/PIO0_13/AD2/CT32B1_MAT0 (io), 24 ~{TRST}/PIO0_14/AD3/CT32B1_MAT1 (io), 25 SWDIO/PIO0_15/AD4/CT32B1_MAT2 (io), 26 PIO0_16/AD5/CT32B1_MAT3/WAKEUP (io), 27 PIO0_23/AD7 (io), 28 PIO1_15/~{DCD}/CT16B0_MAT2/SCK1 (io), 29 VDD (power), 30 PIO0_17/~{RTS}/CT32B0_CAP0/SCLK (io), 31 PIO0_18/RXD/CT32B0_MAT0 (io), 32 PIO0_19/TXD/CT32B0_MAT1 (io), 33 VSS (power)

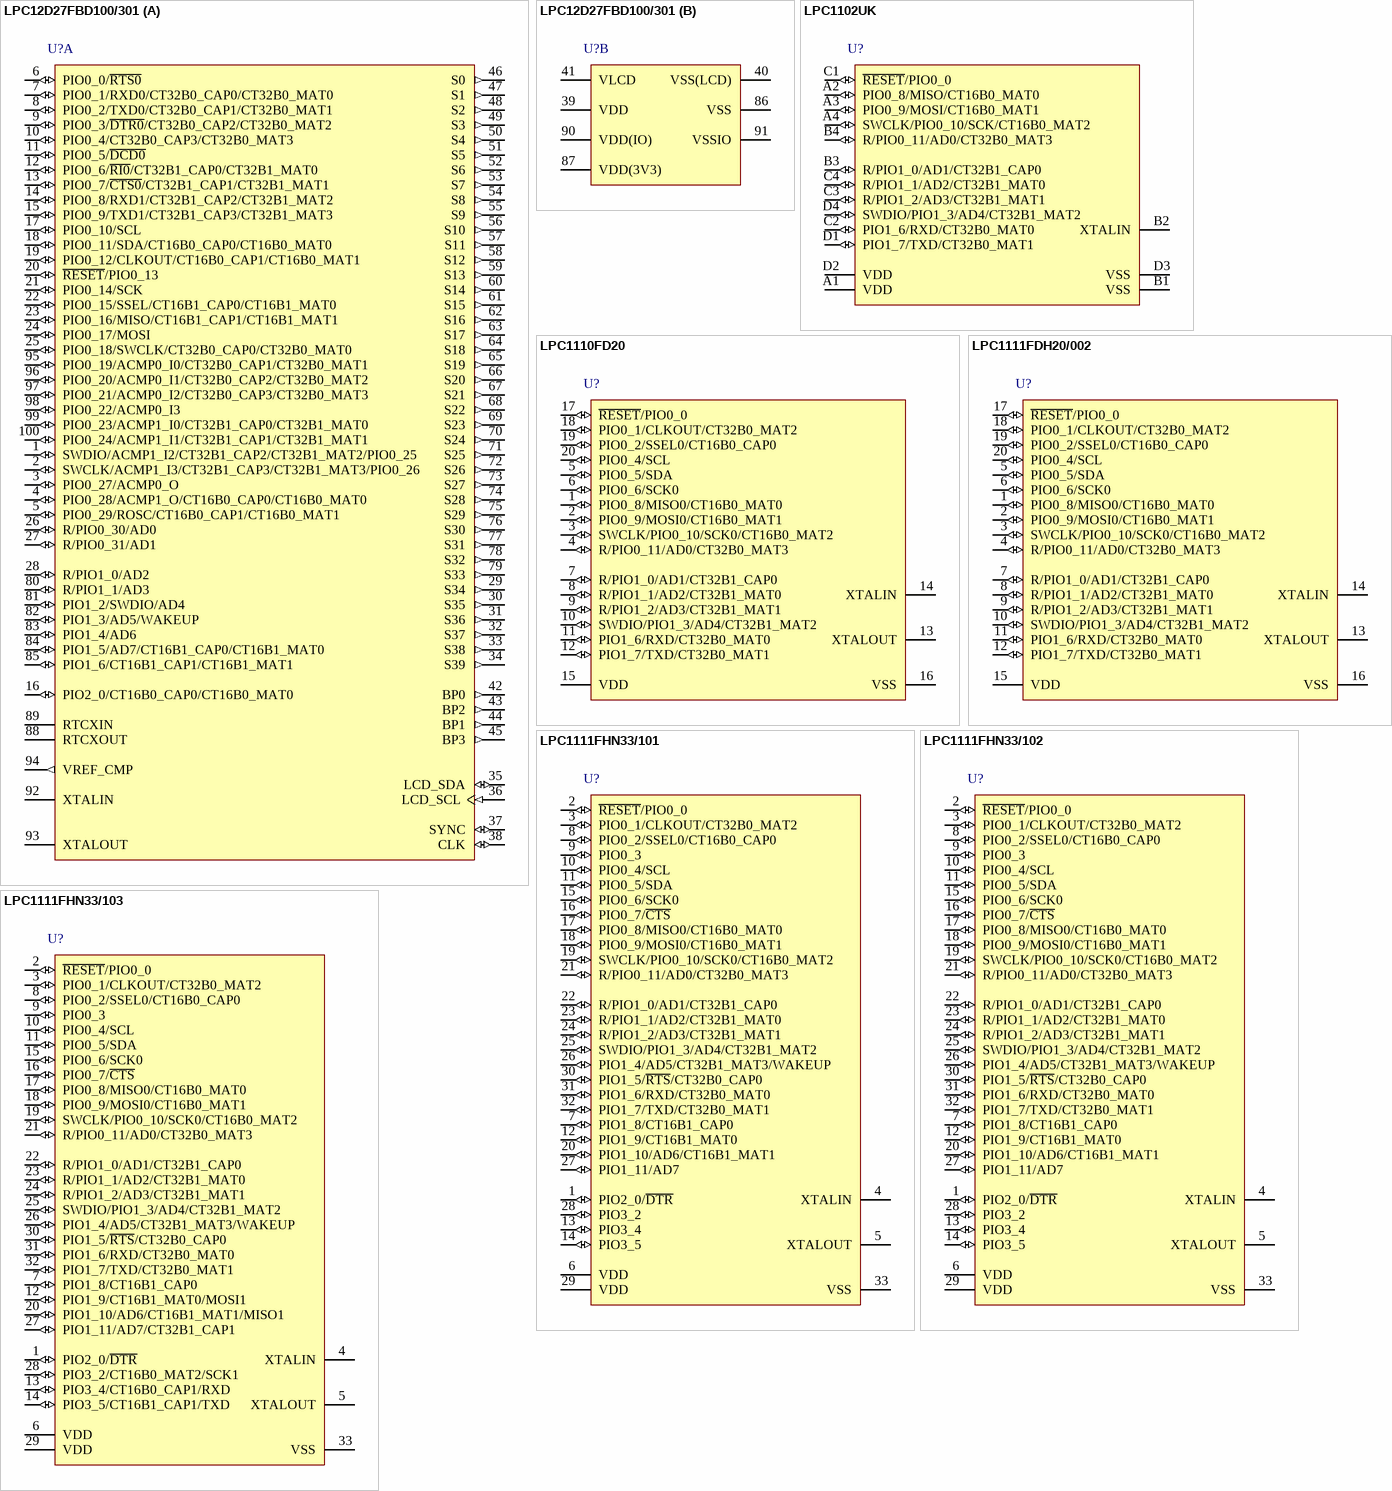
[diagram p6: symbols LPC12D27FBD100/301 to LPC1111FHN33/103]

## LPC12D27FBD100/301
designator U?
32-bit ARM Cortex-M0 MCU, 128 kB Flash, 8 kB SRAM, 1 SSP, ADC, 100-Pin LQFP; PartNumber: LPC12D27FBD100/301; fmax: 45 MHz; SRAM: 8 kB; Flash: 128 kB; GPIOs: 40; UART: 1; PLL: Y; Timers: 4; ADC channels: 8; VDD (min): 3 V; VDD (typ): 3.3 V; VDD (max): 3.6 V; Code_IEC: 136E20; DatasheetVersion: Rev.1, Sep-2011; PackageVersion: Feb-2003; PackageReference: SOT407-1; PackageDescription: LQFP100: Plastic Low Profile Quad Flat Package; 100 Leads; Body 14 x 14 x 1.4 mm; I2C: 1; SSP: 1; Code_JEDEC: MS-026; ComponentLink1Description: Manufacturer URL; ComponentLink1URL: http://www.nxp.com/; ComponentLink2Description: Datasheet; ComponentLink2URL: http://www.nxp.com/documents/data_sheet/LPC12D27.pdf
footprint SOT407-1_V (Thin QFP, 100-Leads, Body 14x14mm, Pitch 0.5mm, NXP Recommended)
footprint SOT407-1_N (Thin QFP, 100-Leads, Body 14x14mm, Pitch 0.5mm, IPC Medium Density)
footprint SOT407-1_L (Thin QFP, 100-Leads, Body 14x14mm, Pitch 0.5mm, IPC High Density)
footprint SOT407-1_M (Thin QFP, 100-Leads, Body 14x14mm, Pitch 0.5mm, IPC Low Density)
part A pins: 1 SWDIO/ACMP1_I2/CT32B1_CAP2/CT32B1_MAT2/PIO0_25 (io), 2 SWCLK/ACMP1_I3/CT32B1_CAP3/CT32B1_MAT3/PIO0_26 (io), 3 PIO0_27/ACMP0_O (io), 4 PIO0_28/ACMP1_O/CT16B0_CAP0/CT16B0_MAT0 (io), 5 PIO0_29/ROSC/CT16B0_CAP1/CT16B0_MAT1 (io), 6 PIO0_0/~{RTS0} (io), 7 PIO0_1/RXD0/CT32B0_CAP0/CT32B0_MAT0 (io), 8 PIO0_2/TXD0/CT32B0_CAP1/CT32B0_MAT1 (io), 9 PIO0_3/~{DTR0}/CT32B0_CAP2/CT32B0_MAT2 (io), 10 PIO0_4/CT32B0_CAP3/CT32B0_MAT3 (io), 11 PIO0_5/~{DCD0} (io), 12 PIO0_6/~{RI0}/CT32B1_CAP0/CT32B1_MAT0 (io), 13 PIO0_7/~{CTS0}/CT32B1_CAP1/CT32B1_MAT1 (io), 14 PIO0_8/RXD1/CT32B1_CAP2/CT32B1_MAT2 (io), 15 PIO0_9/TXD1/CT32B1_CAP3/CT32B1_MAT3 (io), 16 PIO2_0/CT16B0_CAP0/CT16B0_MAT0 (io), 17 PIO0_10/SCL (io), 18 PIO0_11/SDA/CT16B0_CAP0/CT16B0_MAT0 (io), 19 PIO0_12/CLKOUT/CT16B0_CAP1/CT16B0_MAT1 (io), 20 ~{RESET}/PIO0_13 (io), 21 PIO0_14/SCK (io), 22 PIO0_15/SSEL/CT16B1_CAP0/CT16B1_MAT0 (io), 23 PIO0_16/MISO/CT16B1_CAP1/CT16B1_MAT1 (io), 24 PIO0_17/MOSI (io), 25 PIO0_18/SWCLK/CT32B0_CAP0/CT32B0_MAT0 (io), 26 R/PIO0_30/AD0 (io), 27 R/PIO0_31/AD1 (io), 28 R/PIO1_0/AD2 (io), 29 S34 (out), 30 S35 (out), 31 S36 (out), 32 S37 (out), 33 S38 (out), 34 S39 (out), 35 LCD_SDA (io), 36 LCD_SCL (in), 37 SYNC (io), 38 CLK (io), 42 BP0 (out), 43 BP2 (out), 44 BP1 (out), 45 BP3 (out), 46 S0 (out), 47 S1 (out), 48 S2 (out), 49 S3 (out), 50 S4 (out), 51 S5 (out), 52 S6 (out), 53 S7 (out), 54 S8 (out), 55 S9 (out), 56 S10 (out), 57 S11 (out), 58 S12 (out), 59 S13 (out), 60 S14 (out), 61 S15 (out), 62 S16 (out), 63 S17 (out), 64 S18 (out), 65 S19 (out), 66 S20 (out), 67 S21 (out), 68 S22 (out), 69 S23 (out), 70 S24 (out), 71 S25 (out), 72 S26 (out), 73 S27 (out), 74 S28 (out), 75 S29 (out), 76 S30 (out), 77 S31 (out), 78 S32 (out), 79 S33 (out), 80 R/PIO1_1/AD3 (io), 81 PIO1_2/SWDIO/AD4 (io), 82 PIO1_3/AD5/WAKEUP (io), 83 PIO1_4/AD6 (io), 84 PIO1_5/AD7/CT16B1_CAP0/CT16B1_MAT0 (io), 85 PIO1_6/CT16B1_CAP1/CT16B1_MAT1 (io), 88 RTCXOUT, 89 RTCXIN, 92 XTALIN, 93 XTALOUT, 94 VREF_CMP (out), 95 PIO0_19/ACMP0_I0/CT32B0_CAP1/CT32B0_MAT1 (io), 96 PIO0_20/ACMP0_I1/CT32B0_CAP2/CT32B0_MAT2 (io), 97 PIO0_21/ACMP0_I2/CT32B0_CAP3/CT32B0_MAT3 (io), 98 PIO0_22/ACMP0_I3 (io), 99 PIO0_23/ACMP1_I0/CT32B1_CAP0/CT32B1_MAT0 (io), 100 PIO0_24/ACMP1_I1/CT32B1_CAP1/CT32B1_MAT1 (io)
part B pins: 39 VDD (power), 40 VSS(LCD) (power), 41 VLCD (power), 86 VSS (power), 87 VDD(3V3) (power), 90 VDD(IO) (power), 91 VSSIO (power)

## LPC1102UK
designator U?
32-bit ARM Cortex-M0 MCU, 32 kB Flash, 8 kB SRAM, 16-Ball WLCSP; PartNumber: LPC1102UK; fmax: 50 MHz; SRAM: 8 kB; Flash: 32 kB; GPIOs: 11; UART: 1; PLL: Y; Timers: 4; ADC channels: 5; VDD (min): 1.8 V; VDD (typ): 3.3 V; VDD (max): 3.6 V; DatasheetVersion: Rev. 4, Jun-2011; PackageVersion: Oct-2012; PackageReference: LPC1102UK; PackageDescription: WLCSP16: Wafer Level Chip-Size Package; 16 Bumps; Body 2.17 x 2.32 x 0.6 mm; SPI: 1; ComponentLink1Description: Manufacturer URL; ComponentLink1URL: http://www.nxp.com/; ComponentLink2Description: Datasheet; ComponentLink2URL: http://www.nxp.com/documents/data_sheet/LPC1102.pdf
footprint LPC1102UK (BGA, 16-Leads, Body 2.32x2.17mm, Pitch 0.5mm, NXP Recommended Pads)
pins: A1 VDD (power), A2 PIO0_8/MISO/CT16B0_MAT0 (io), A3 PIO0_9/MOSI/CT16B0_MAT1 (io), A4 SWCLK/PIO0_10/SCK/CT16B0_MAT2 (io), B1 VSS (power), B2 XTALIN, B3 R/PIO1_0/AD1/CT32B1_CAP0 (io), B4 R/PIO0_11/AD0/CT32B0_MAT3 (io), C1 ~{RESET}/PIO0_0 (io), C2 PIO1_6/RXD/CT32B0_MAT0 (io), C3 R/PIO1_2/AD3/CT32B1_MAT1 (io), C4 R/PIO1_1/AD2/CT32B1_MAT0 (io), D1 PIO1_7/TXD/CT32B0_MAT1 (io), D2 VDD (power), D3 VSS (power), D4 SWDIO/PIO1_3/AD4/CT32B1_MAT2 (io)

## LPC1110FD20
designator U?
32-bit ARM Cortex-M0 MCU, LPC1100L Series, 4 kB Flash, 1 kB SRAM, 1 SPI, ADC, 20-Pin SO; PartNumber: LPC1110FD20; fmax: 50 MHz; SRAM: 1 kB; Flash: 4 kB; GPIOs: 16; UART: 1; PLL: Y; Timers: 4; ADC channels: 5; VDD (min): 1.8 V; VDD (typ): 3.3 V; VDD (max): 3.6 V; DatasheetVersion: Rev. 7.1, Apr-2012; PackageVersion: Feb-2003; PackageReference: SOT163-1; PackageDescription: SO20: Plastic Small Outline Package; 20 Leads; Body Width 7.5 mm; I2C: 1; SPI: 1; ComponentLink1Description: Manufacturer URL; ComponentLink1URL: http://www.nxp.com/; ComponentLink2Description: Datasheet; ComponentLink2URL: http://www.nxp.com/documents/data_sheet/LPC111X.pdf
footprint SOT163-1_V (SOIC, 20-Leads, Body 12.8x7.5mm, Pitch 1.27mm, NXP Recommended)
pins: 1 PIO0_8/MISO0/CT16B0_MAT0 (io), 2 PIO0_9/MOSI0/CT16B0_MAT1 (io), 3 SWCLK/PIO0_10/SCK0/CT16B0_MAT2 (io), 4 R/PIO0_11/AD0/CT32B0_MAT3 (io), 5 PIO0_5/SDA (io), 6 PIO0_6/SCK0 (io), 7 R/PIO1_0/AD1/CT32B1_CAP0 (io), 8 R/PIO1_1/AD2/CT32B1_MAT0 (io), 9 R/PIO1_2/AD3/CT32B1_MAT1 (io), 10 SWDIO/PIO1_3/AD4/CT32B1_MAT2 (io), 11 PIO1_6/RXD/CT32B0_MAT0 (io), 12 PIO1_7/TXD/CT32B0_MAT1 (io), 13 XTALOUT, 14 XTALIN, 15 VDD (power), 16 VSS (power), 17 ~{RESET}/PIO0_0 (io), 18 PIO0_1/CLKOUT/CT32B0_MAT2 (io), 19 PIO0_2/SSEL0/CT16B0_CAP0 (io), 20 PIO0_4/SCL (io)

## LPC1111FDH20/002
designator U?
32-bit ARM Cortex-M0 MCU, LPC1100L Series, 8 kB Flash, 2 kB SRAM, 1 SPI, ADC, 20-Pin TSSOP; PartNumber: LPC1111FDH20/002; fmax: 50 MHz; SRAM: 2 kB; Flash: 8 kB; GPIOs: 16; UART: 1; PLL: Y; Timers: 4; ADC channels: 5; VDD (min): 1.8 V; VDD (typ): 3.3 V; VDD (max): 3.6 V; DatasheetVersion: Rev. 7.1, Apr-2012; PackageVersion: Feb-2003; PackageReference: SOT360-1; PackageDescription: TSSOP20: Plastic Thin Shrink Small Outline Package; 20 Leads; Body Width 4.4 mm; I2C: 1; SPI: 1; Code_JEDEC: MO-153; ComponentLink1Description: Manufacturer URL; ComponentLink1URL: http://www.nxp.com/; ComponentLink2Description: Datasheet; ComponentLink2URL: http://www.nxp.com/documents/data_sheet/LPC111X.pdf
footprint SOT360-1_V (TSOP, 20-Leads, Body 6.5x4.4mm, Pitch 0.65mm, NXP Recommended)
pins: 1 PIO0_8/MISO0/CT16B0_MAT0 (io), 2 PIO0_9/MOSI0/CT16B0_MAT1 (io), 3 SWCLK/PIO0_10/SCK0/CT16B0_MAT2 (io), 4 R/PIO0_11/AD0/CT32B0_MAT3 (io), 5 PIO0_5/SDA (io), 6 PIO0_6/SCK0 (io), 7 R/PIO1_0/AD1/CT32B1_CAP0 (io), 8 R/PIO1_1/AD2/CT32B1_MAT0 (io), 9 R/PIO1_2/AD3/CT32B1_MAT1 (io), 10 SWDIO/PIO1_3/AD4/CT32B1_MAT2 (io), 11 PIO1_6/RXD/CT32B0_MAT0 (io), 12 PIO1_7/TXD/CT32B0_MAT1 (io), 13 XTALOUT, 14 XTALIN, 15 VDD (power), 16 VSS (power), 17 ~{RESET}/PIO0_0 (io), 18 PIO0_1/CLKOUT/CT32B0_MAT2 (io), 19 PIO0_2/SSEL0/CT16B0_CAP0 (io), 20 PIO0_4/SCL (io)

## LPC1111FHN33/101
designator U?
32-bit ARM Cortex-M0 MCU, LPC1100 Series, 8 kB Flash, 2 kB SRAM, 1 SPI, ADC, 32-Pin HVQFN; PartNumber: LPC1111FHN33/101; fmax: 50 MHz; SRAM: 2 kB; Flash: 8 kB; GPIOs: 28; UART: 1; PLL: Y; Timers: 4; ADC channels: 8; VDD (min): 1.8 V; VDD (typ): 3.3 V; VDD (max): 3.6 V; DatasheetVersion: Rev. 7.1, Apr-2012; PackageVersion: Jun-2009; PackageReference: SOT865-3; PackageDescription: HVQFN32: Plastic Thermal Enhanced Very Thin Quad Flat Package; No Leads; 32 Terminals; Body 7 x 7 x 0.85 mm; I2C: 1; SPI: 1; Code_JEDEC: MO-220; ComponentLink1Description: Manufacturer URL; ComponentLink1URL: http://www.nxp.com/; ComponentLink2Description: Datasheet; ComponentLink2URL: http://www.nxp.com/documents/data_sheet/LPC111X.pdf
footprint SOT865-3_V (QFN, 32-Leads, Body 7x7mm, Pitch 0.65mm, Thermal Pad 4.7x4.7mm, NXP Recommended)
footprint SOT865-3_N (QFN, 32-Leads, Body 7x7mm, Pitch 0.65mm, Thermal Pad 4.9x4.9mm, IPC Medium Density)
footprint SOT865-3_L (QFN, 32-Leads, Body 7x7mm, Pitch 0.65mm, Thermal Pad 4.9x4.9mm, IPC High Density)
footprint SOT865-3_M (QFN, 32-Leads, Body 7x7mm, Pitch 0.65mm, Thermal Pad 4.9x4.9mm, IPC Low Density)
pins: 1 PIO2_0/~{DTR} (io), 2 ~{RESET}/PIO0_0 (io), 3 PIO0_1/CLKOUT/CT32B0_MAT2 (io), 4 XTALIN, 5 XTALOUT, 6 VDD (power), 7 PIO1_8/CT16B1_CAP0 (io), 8 PIO0_2/SSEL0/CT16B0_CAP0 (io), 9 PIO0_3 (io), 10 PIO0_4/SCL (io), 11 PIO0_5/SDA (io), 12 PIO1_9/CT16B1_MAT0 (io), 13 PIO3_4 (io), 14 PIO3_5 (io), 15 PIO0_6/SCK0 (io), 16 PIO0_7/~{CTS} (io), 17 PIO0_8/MISO0/CT16B0_MAT0 (io), 18 PIO0_9/MOSI0/CT16B0_MAT1 (io), 19 SWCLK/PIO0_10/SCK0/CT16B0_MAT2 (io), 20 PIO1_10/AD6/CT16B1_MAT1 (io), 21 R/PIO0_11/AD0/CT32B0_MAT3 (io), 22 R/PIO1_0/AD1/CT32B1_CAP0 (io), 23 R/PIO1_1/AD2/CT32B1_MAT0 (io), 24 R/PIO1_2/AD3/CT32B1_MAT1 (io), 25 SWDIO/PIO1_3/AD4/CT32B1_MAT2 (io), 26 PIO1_4/AD5/CT32B1_MAT3/WAKEUP (io), 27 PIO1_11/AD7 (io), 28 PIO3_2 (io), 29 VDD (power), 30 PIO1_5/~{RTS}/CT32B0_CAP0 (io), 31 PIO1_6/RXD/CT32B0_MAT0 (io), 32 PIO1_7/TXD/CT32B0_MAT1 (io), 33 VSS (power)

## LPC1111FHN33/102
designator U?
32-bit ARM Cortex-M0 MCU, LPC1100L Series, 8 kB Flash, 2 kB SRAM, 1 SPI, ADC, 32-Pin HVQFN; PartNumber: LPC1111FHN33/102; fmax: 50 MHz; SRAM: 2 kB; Flash: 8 kB; GPIOs: 28; UART: 1; PLL: Y; Timers: 4; ADC channels: 8; VDD (min): 1.8 V; VDD (typ): 3.3 V; VDD (max): 3.6 V; DatasheetVersion: Rev. 7.1, Apr-2012; PackageVersion: Jun-2009; PackageReference: SOT865-3; PackageDescription: HVQFN32: Plastic Thermal Enhanced Very Thin Quad Flat Package; No Leads; 32 Terminals; Body 7 x 7 x 0.85 mm; I2C: 1; SPI: 1; Code_JEDEC: MO-220; ComponentLink1Description: Manufacturer URL; ComponentLink1URL: http://www.nxp.com/; ComponentLink2Description: Datasheet; ComponentLink2URL: http://www.nxp.com/documents/data_sheet/LPC111X.pdf
footprint SOT865-3_V (QFN, 32-Leads, Body 7x7mm, Pitch 0.65mm, Thermal Pad 4.7x4.7mm, NXP Recommended)
footprint SOT865-3_N (QFN, 32-Leads, Body 7x7mm, Pitch 0.65mm, Thermal Pad 4.9x4.9mm, IPC Medium Density)
footprint SOT865-3_L (QFN, 32-Leads, Body 7x7mm, Pitch 0.65mm, Thermal Pad 4.9x4.9mm, IPC High Density)
footprint SOT865-3_M (QFN, 32-Leads, Body 7x7mm, Pitch 0.65mm, Thermal Pad 4.9x4.9mm, IPC Low Density)
pins: 1 PIO2_0/~{DTR} (io), 2 ~{RESET}/PIO0_0 (io), 3 PIO0_1/CLKOUT/CT32B0_MAT2 (io), 4 XTALIN, 5 XTALOUT, 6 VDD (power), 7 PIO1_8/CT16B1_CAP0 (io), 8 PIO0_2/SSEL0/CT16B0_CAP0 (io), 9 PIO0_3 (io), 10 PIO0_4/SCL (io), 11 PIO0_5/SDA (io), 12 PIO1_9/CT16B1_MAT0 (io), 13 PIO3_4 (io), 14 PIO3_5 (io), 15 PIO0_6/SCK0 (io), 16 PIO0_7/~{CTS} (io), 17 PIO0_8/MISO0/CT16B0_MAT0 (io), 18 PIO0_9/MOSI0/CT16B0_MAT1 (io), 19 SWCLK/PIO0_10/SCK0/CT16B0_MAT2 (io), 20 PIO1_10/AD6/CT16B1_MAT1 (io), 21 R/PIO0_11/AD0/CT32B0_MAT3 (io), 22 R/PIO1_0/AD1/CT32B1_CAP0 (io), 23 R/PIO1_1/AD2/CT32B1_MAT0 (io), 24 R/PIO1_2/AD3/CT32B1_MAT1 (io), 25 SWDIO/PIO1_3/AD4/CT32B1_MAT2 (io), 26 PIO1_4/AD5/CT32B1_MAT3/WAKEUP (io), 27 PIO1_11/AD7 (io), 28 PIO3_2 (io), 29 VDD (power), 30 PIO1_5/~{RTS}/CT32B0_CAP0 (io), 31 PIO1_6/RXD/CT32B0_MAT0 (io), 32 PIO1_7/TXD/CT32B0_MAT1 (io), 33 VSS (power)

## LPC1111FHN33/103
designator U?
32-bit ARM Cortex-M0 MCU, LPC1100XL Series, 8 kB Flash, 2 kB SRAM, 2 SPI, ADC, 32-Pin HVQFN; PartNumber: LPC1111FHN33/103; fmax: 50 MHz; SRAM: 2 kB; Flash: 8 kB; GPIOs: 28; UART: 1; SPI: 2; PLL: Y; Timers: 4; ADC channels: 8; VDD (min): 1.8 V; VDD (typ): 3.3 V; VDD (max): 3.6 V; DatasheetVersion: Rev. 7.1, Apr-2012; PackageVersion: Jun-2009; PackageReference: SOT865-3; PackageDescription: HVQFN32: Plastic Thermal Enhanced Very Thin Quad Flat Package; No Leads; 32 Terminals; Body 7 x 7 x 0.85 mm; I2C: 1; Code_JEDEC: MO-220; ComponentLink1Description: Manufacturer URL; ComponentLink1URL: http://www.nxp.com/; ComponentLink2Description: Datasheet; ComponentLink2URL: http://www.nxp.com/documents/data_sheet/LPC111X.pdf
footprint SOT865-3_V (QFN, 32-Leads, Body 7x7mm, Pitch 0.65mm, Thermal Pad 4.7x4.7mm, NXP Recommended)
footprint SOT865-3_N (QFN, 32-Leads, Body 7x7mm, Pitch 0.65mm, Thermal Pad 4.9x4.9mm, IPC Medium Density)
footprint SOT865-3_L (QFN, 32-Leads, Body 7x7mm, Pitch 0.65mm, Thermal Pad 4.9x4.9mm, IPC High Density)
footprint SOT865-3_M (QFN, 32-Leads, Body 7x7mm, Pitch 0.65mm, Thermal Pad 4.9x4.9mm, IPC Low Density)
pins: 1 PIO2_0/~{DTR} (io), 2 ~{RESET}/PIO0_0 (io), 3 PIO0_1/CLKOUT/CT32B0_MAT2 (io), 4 XTALIN, 5 XTALOUT, 6 VDD (power), 7 PIO1_8/CT16B1_CAP0 (io), 8 PIO0_2/SSEL0/CT16B0_CAP0 (io), 9 PIO0_3 (io), 10 PIO0_4/SCL (io), 11 PIO0_5/SDA (io), 12 PIO1_9/CT16B1_MAT0/MOSI1 (io), 13 PIO3_4/CT16B0_CAP1/RXD (io), 14 PIO3_5/CT16B1_CAP1/TXD (io), 15 PIO0_6/SCK0 (io), 16 PIO0_7/~{CTS} (io), 17 PIO0_8/MISO0/CT16B0_MAT0 (io), 18 PIO0_9/MOSI0/CT16B0_MAT1 (io), 19 SWCLK/PIO0_10/SCK0/CT16B0_MAT2 (io), 20 PIO1_10/AD6/CT16B1_MAT1/MISO1 (io), 21 R/PIO0_11/AD0/CT32B0_MAT3 (io), 22 R/PIO1_0/AD1/CT32B1_CAP0 (io), 23 R/PIO1_1/AD2/CT32B1_MAT0 (io), 24 R/PIO1_2/AD3/CT32B1_MAT1 (io), 25 SWDIO/PIO1_3/AD4/CT32B1_MAT2 (io), 26 PIO1_4/AD5/CT32B1_MAT3/WAKEUP (io), 27 PIO1_11/AD7/CT32B1_CAP1 (io), 28 PIO3_2/CT16B0_MAT2/SCK1 (io), 29 VDD (power), 30 PIO1_5/~{RTS}/CT32B0_CAP0 (io), 31 PIO1_6/RXD/CT32B0_MAT0 (io), 32 PIO1_7/TXD/CT32B0_MAT1 (io), 33 VSS (power)

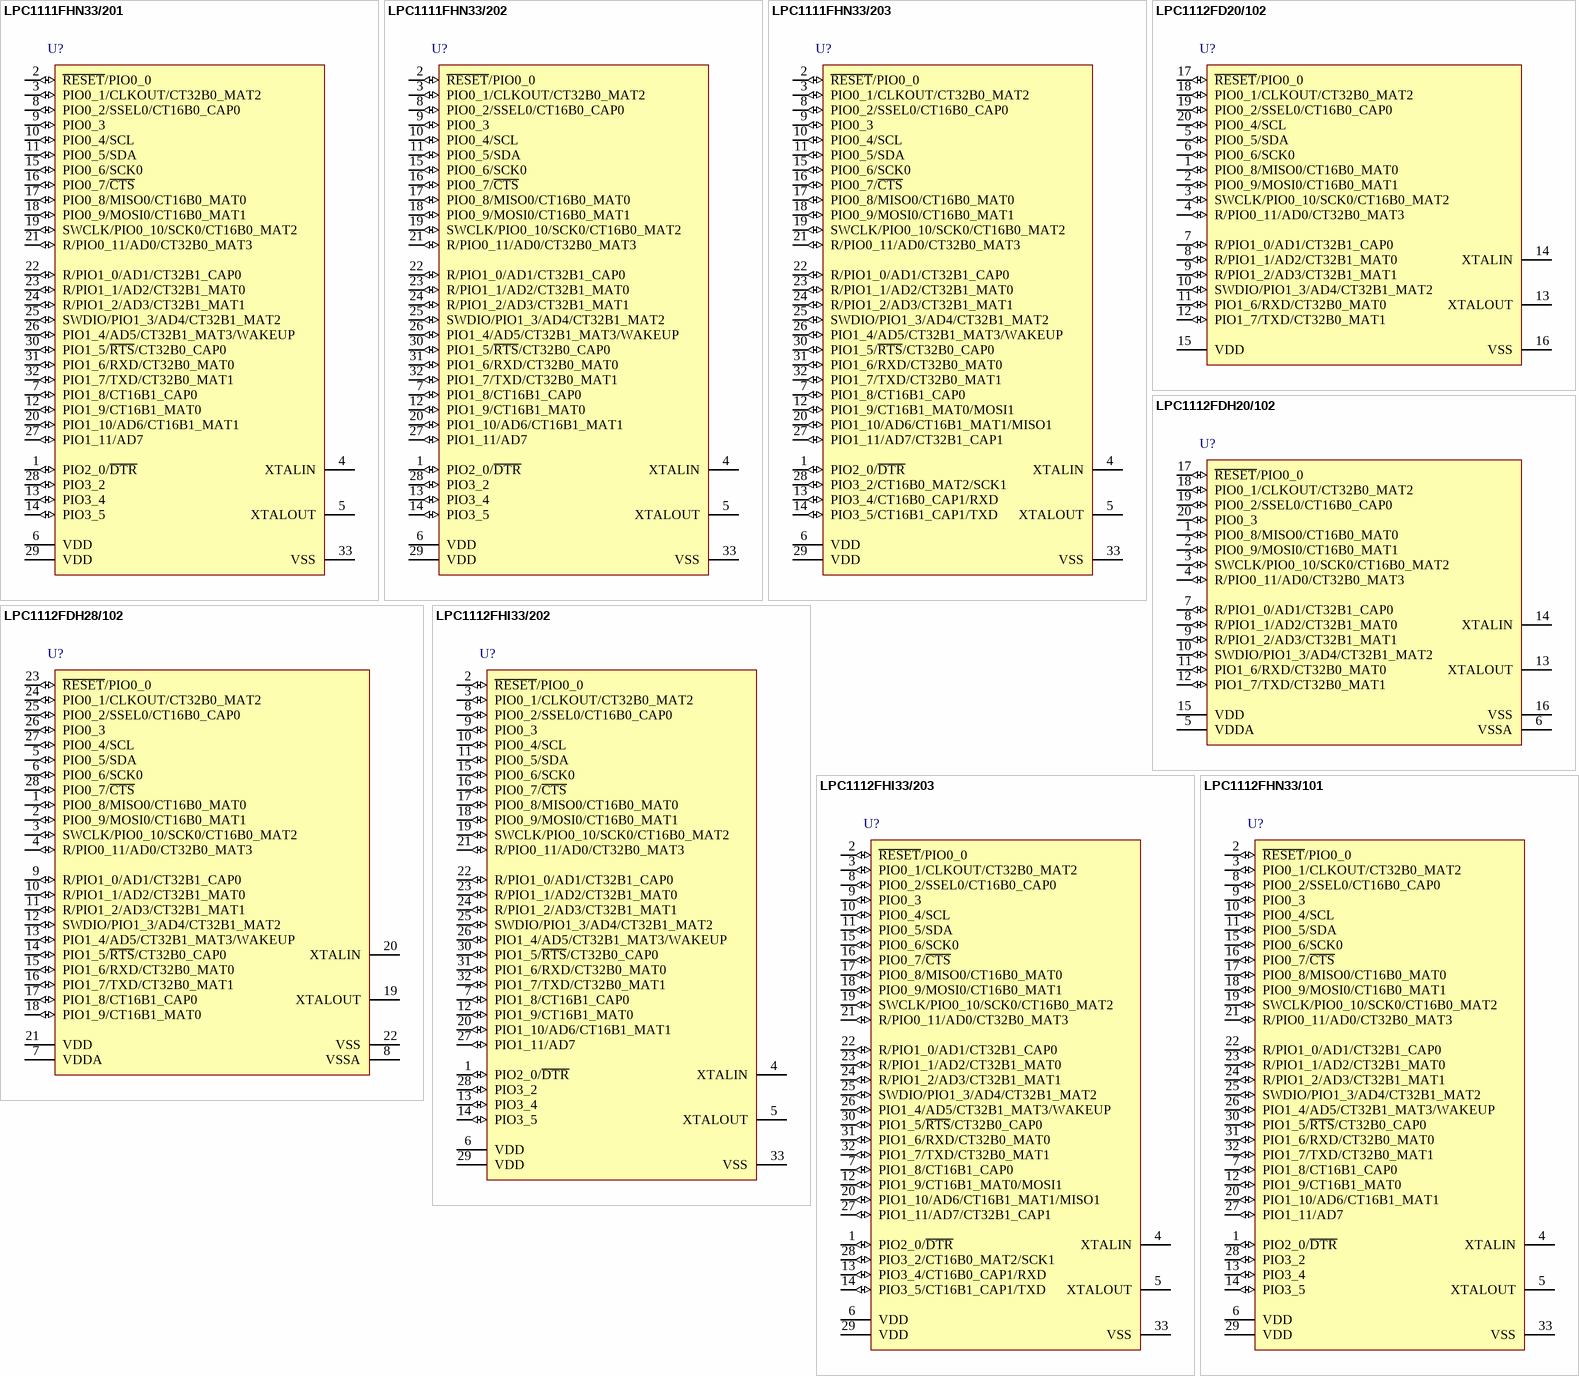
[diagram p7: symbols LPC1111FHN33/201 to LPC1112FHN33/101]

## LPC1111FHN33/201
designator U?
32-bit ARM Cortex-M0 MCU, LPC1100 Series, 8 kB Flash, 4 kB SRAM, 1 SPI, ADC, 32-Pin HVQFN; PartNumber: LPC1111FHN33/201; fmax: 50 MHz; SRAM: 4 kB; Flash: 8 kB; GPIOs: 28; UART: 1; PLL: Y; Timers: 4; ADC channels: 8; VDD (min): 1.8 V; VDD (typ): 3.3 V; VDD (max): 3.6 V; DatasheetVersion: Rev. 7.1, Apr-2012; PackageVersion: Jun-2009; PackageReference: SOT865-3; PackageDescription: HVQFN32: Plastic Thermal Enhanced Very Thin Quad Flat Package; No Leads; 32 Terminals; Body 7 x 7 x 0.85 mm; I2C: 1; SPI: 1; Code_JEDEC: MO-220; ComponentLink1Description: Manufacturer URL; ComponentLink1URL: http://www.nxp.com/; ComponentLink2Description: Datasheet; ComponentLink2URL: http://www.nxp.com/documents/data_sheet/LPC111X.pdf
footprint SOT865-3_V (QFN, 32-Leads, Body 7x7mm, Pitch 0.65mm, Thermal Pad 4.7x4.7mm, NXP Recommended)
footprint SOT865-3_N (QFN, 32-Leads, Body 7x7mm, Pitch 0.65mm, Thermal Pad 4.9x4.9mm, IPC Medium Density)
footprint SOT865-3_L (QFN, 32-Leads, Body 7x7mm, Pitch 0.65mm, Thermal Pad 4.9x4.9mm, IPC High Density)
footprint SOT865-3_M (QFN, 32-Leads, Body 7x7mm, Pitch 0.65mm, Thermal Pad 4.9x4.9mm, IPC Low Density)
pins: 1 PIO2_0/~{DTR} (io), 2 ~{RESET}/PIO0_0 (io), 3 PIO0_1/CLKOUT/CT32B0_MAT2 (io), 4 XTALIN, 5 XTALOUT, 6 VDD (power), 7 PIO1_8/CT16B1_CAP0 (io), 8 PIO0_2/SSEL0/CT16B0_CAP0 (io), 9 PIO0_3 (io), 10 PIO0_4/SCL (io), 11 PIO0_5/SDA (io), 12 PIO1_9/CT16B1_MAT0 (io), 13 PIO3_4 (io), 14 PIO3_5 (io), 15 PIO0_6/SCK0 (io), 16 PIO0_7/~{CTS} (io), 17 PIO0_8/MISO0/CT16B0_MAT0 (io), 18 PIO0_9/MOSI0/CT16B0_MAT1 (io), 19 SWCLK/PIO0_10/SCK0/CT16B0_MAT2 (io), 20 PIO1_10/AD6/CT16B1_MAT1 (io), 21 R/PIO0_11/AD0/CT32B0_MAT3 (io), 22 R/PIO1_0/AD1/CT32B1_CAP0 (io), 23 R/PIO1_1/AD2/CT32B1_MAT0 (io), 24 R/PIO1_2/AD3/CT32B1_MAT1 (io), 25 SWDIO/PIO1_3/AD4/CT32B1_MAT2 (io), 26 PIO1_4/AD5/CT32B1_MAT3/WAKEUP (io), 27 PIO1_11/AD7 (io), 28 PIO3_2 (io), 29 VDD (power), 30 PIO1_5/~{RTS}/CT32B0_CAP0 (io), 31 PIO1_6/RXD/CT32B0_MAT0 (io), 32 PIO1_7/TXD/CT32B0_MAT1 (io), 33 VSS (power)

## LPC1111FHN33/202
designator U?
32-bit ARM Cortex-M0 MCU, LPC1100L Series, 8 kB Flash, 4 kB SRAM, 1 SPI, ADC, 32-Pin HVQFN; PartNumber: LPC1111FHN33/202; fmax: 50 MHz; SRAM: 4 kB; Flash: 8 kB; GPIOs: 28; UART: 1; PLL: Y; Timers: 4; ADC channels: 8; VDD (min): 1.8 V; VDD (typ): 3.3 V; VDD (max): 3.6 V; DatasheetVersion: Rev. 7.1, Apr-2012; PackageVersion: Jun-2009; PackageReference: SOT865-3; PackageDescription: HVQFN32: Plastic Thermal Enhanced Very Thin Quad Flat Package; No Leads; 32 Terminals; Body 7 x 7 x 0.85 mm; I2C: 1; SPI: 1; Code_JEDEC: MO-220; ComponentLink1Description: Manufacturer URL; ComponentLink1URL: http://www.nxp.com/; ComponentLink2Description: Datasheet; ComponentLink2URL: http://www.nxp.com/documents/data_sheet/LPC111X.pdf
footprint SOT865-3_V (QFN, 32-Leads, Body 7x7mm, Pitch 0.65mm, Thermal Pad 4.7x4.7mm, NXP Recommended)
footprint SOT865-3_N (QFN, 32-Leads, Body 7x7mm, Pitch 0.65mm, Thermal Pad 4.9x4.9mm, IPC Medium Density)
footprint SOT865-3_L (QFN, 32-Leads, Body 7x7mm, Pitch 0.65mm, Thermal Pad 4.9x4.9mm, IPC High Density)
footprint SOT865-3_M (QFN, 32-Leads, Body 7x7mm, Pitch 0.65mm, Thermal Pad 4.9x4.9mm, IPC Low Density)
pins: 1 PIO2_0/~{DTR} (io), 2 ~{RESET}/PIO0_0 (io), 3 PIO0_1/CLKOUT/CT32B0_MAT2 (io), 4 XTALIN, 5 XTALOUT, 6 VDD (power), 7 PIO1_8/CT16B1_CAP0 (io), 8 PIO0_2/SSEL0/CT16B0_CAP0 (io), 9 PIO0_3 (io), 10 PIO0_4/SCL (io), 11 PIO0_5/SDA (io), 12 PIO1_9/CT16B1_MAT0 (io), 13 PIO3_4 (io), 14 PIO3_5 (io), 15 PIO0_6/SCK0 (io), 16 PIO0_7/~{CTS} (io), 17 PIO0_8/MISO0/CT16B0_MAT0 (io), 18 PIO0_9/MOSI0/CT16B0_MAT1 (io), 19 SWCLK/PIO0_10/SCK0/CT16B0_MAT2 (io), 20 PIO1_10/AD6/CT16B1_MAT1 (io), 21 R/PIO0_11/AD0/CT32B0_MAT3 (io), 22 R/PIO1_0/AD1/CT32B1_CAP0 (io), 23 R/PIO1_1/AD2/CT32B1_MAT0 (io), 24 R/PIO1_2/AD3/CT32B1_MAT1 (io), 25 SWDIO/PIO1_3/AD4/CT32B1_MAT2 (io), 26 PIO1_4/AD5/CT32B1_MAT3/WAKEUP (io), 27 PIO1_11/AD7 (io), 28 PIO3_2 (io), 29 VDD (power), 30 PIO1_5/~{RTS}/CT32B0_CAP0 (io), 31 PIO1_6/RXD/CT32B0_MAT0 (io), 32 PIO1_7/TXD/CT32B0_MAT1 (io), 33 VSS (power)

## LPC1111FHN33/203
designator U?
32-bit ARM Cortex-M0 MCU, LPC1100XL Series, 8 kB Flash, 4 kB SRAM, 2 SPI, ADC, 32-Pin HVQFN; PartNumber: LPC1111FHN33/203; fmax: 50 MHz; SRAM: 4 kB; Flash: 8 kB; GPIOs: 28; UART: 1; SPI: 2; PLL: Y; Timers: 4; ADC channels: 8; VDD (min): 1.8 V; VDD (typ): 3.3 V; VDD (max): 3.6 V; DatasheetVersion: Rev. 7.1, Apr-2012; PackageVersion: Jun-2009; PackageReference: SOT865-3; PackageDescription: HVQFN32: Plastic Thermal Enhanced Very Thin Quad Flat Package; No Leads; 32 Terminals; Body 7 x 7 x 0.85 mm; I2C: 1; Code_JEDEC: MO-220; ComponentLink1Description: Manufacturer URL; ComponentLink1URL: http://www.nxp.com/; ComponentLink2Description: Datasheet; ComponentLink2URL: http://www.nxp.com/documents/data_sheet/LPC111X.pdf
footprint SOT865-3_V (QFN, 32-Leads, Body 7x7mm, Pitch 0.65mm, Thermal Pad 4.7x4.7mm, NXP Recommended)
footprint SOT865-3_N (QFN, 32-Leads, Body 7x7mm, Pitch 0.65mm, Thermal Pad 4.9x4.9mm, IPC Medium Density)
footprint SOT865-3_L (QFN, 32-Leads, Body 7x7mm, Pitch 0.65mm, Thermal Pad 4.9x4.9mm, IPC High Density)
footprint SOT865-3_M (QFN, 32-Leads, Body 7x7mm, Pitch 0.65mm, Thermal Pad 4.9x4.9mm, IPC Low Density)
pins: 1 PIO2_0/~{DTR} (io), 2 ~{RESET}/PIO0_0 (io), 3 PIO0_1/CLKOUT/CT32B0_MAT2 (io), 4 XTALIN, 5 XTALOUT, 6 VDD (power), 7 PIO1_8/CT16B1_CAP0 (io), 8 PIO0_2/SSEL0/CT16B0_CAP0 (io), 9 PIO0_3 (io), 10 PIO0_4/SCL (io), 11 PIO0_5/SDA (io), 12 PIO1_9/CT16B1_MAT0/MOSI1 (io), 13 PIO3_4/CT16B0_CAP1/RXD (io), 14 PIO3_5/CT16B1_CAP1/TXD (io), 15 PIO0_6/SCK0 (io), 16 PIO0_7/~{CTS} (io), 17 PIO0_8/MISO0/CT16B0_MAT0 (io), 18 PIO0_9/MOSI0/CT16B0_MAT1 (io), 19 SWCLK/PIO0_10/SCK0/CT16B0_MAT2 (io), 20 PIO1_10/AD6/CT16B1_MAT1/MISO1 (io), 21 R/PIO0_11/AD0/CT32B0_MAT3 (io), 22 R/PIO1_0/AD1/CT32B1_CAP0 (io), 23 R/PIO1_1/AD2/CT32B1_MAT0 (io), 24 R/PIO1_2/AD3/CT32B1_MAT1 (io), 25 SWDIO/PIO1_3/AD4/CT32B1_MAT2 (io), 26 PIO1_4/AD5/CT32B1_MAT3/WAKEUP (io), 27 PIO1_11/AD7/CT32B1_CAP1 (io), 28 PIO3_2/CT16B0_MAT2/SCK1 (io), 29 VDD (power), 30 PIO1_5/~{RTS}/CT32B0_CAP0 (io), 31 PIO1_6/RXD/CT32B0_MAT0 (io), 32 PIO1_7/TXD/CT32B0_MAT1 (io), 33 VSS (power)

## LPC1112FD20/102
designator U?
32-bit ARM Cortex-M0 MCU, LPC1100L Series, 16 kB Flash, 4 kB SRAM, 1 SPI, ADC, 20-Pin SO; PartNumber: LPC1112FD20/102; fmax: 50 MHz; SRAM: 4 kB; Flash: 16 kB; GPIOs: 16; UART: 1; PLL: Y; Timers: 4; ADC channels: 5; VDD (min): 1.8 V; VDD (typ): 3.3 V; VDD (max): 3.6 V; DatasheetVersion: Rev. 7.1, Apr-2012; PackageVersion: Feb-2003; PackageReference: SOT163-1; PackageDescription: SO20: Plastic Small Outline Package; 20 Leads; Body Width 7.5 mm; I2C: 1; SPI: 1; ComponentLink1Description: Manufacturer URL; ComponentLink1URL: http://www.nxp.com/; ComponentLink2Description: Datasheet; ComponentLink2URL: http://www.nxp.com/documents/data_sheet/LPC111X.pdf
footprint SOT163-1_V (SOIC, 20-Leads, Body 12.8x7.5mm, Pitch 1.27mm, NXP Recommended)
pins: 1 PIO0_8/MISO0/CT16B0_MAT0 (io), 2 PIO0_9/MOSI0/CT16B0_MAT1 (io), 3 SWCLK/PIO0_10/SCK0/CT16B0_MAT2 (io), 4 R/PIO0_11/AD0/CT32B0_MAT3 (io), 5 PIO0_5/SDA (io), 6 PIO0_6/SCK0 (io), 7 R/PIO1_0/AD1/CT32B1_CAP0 (io), 8 R/PIO1_1/AD2/CT32B1_MAT0 (io), 9 R/PIO1_2/AD3/CT32B1_MAT1 (io), 10 SWDIO/PIO1_3/AD4/CT32B1_MAT2 (io), 11 PIO1_6/RXD/CT32B0_MAT0 (io), 12 PIO1_7/TXD/CT32B0_MAT1 (io), 13 XTALOUT, 14 XTALIN, 15 VDD (power), 16 VSS (power), 17 ~{RESET}/PIO0_0 (io), 18 PIO0_1/CLKOUT/CT32B0_MAT2 (io), 19 PIO0_2/SSEL0/CT16B0_CAP0 (io), 20 PIO0_4/SCL (io)